# Altium schematic symbol library EISI.SchLib: 270 symbols (part 1 of 3)
Pins are listed as number, name and electrical type; pins without a type are passive.

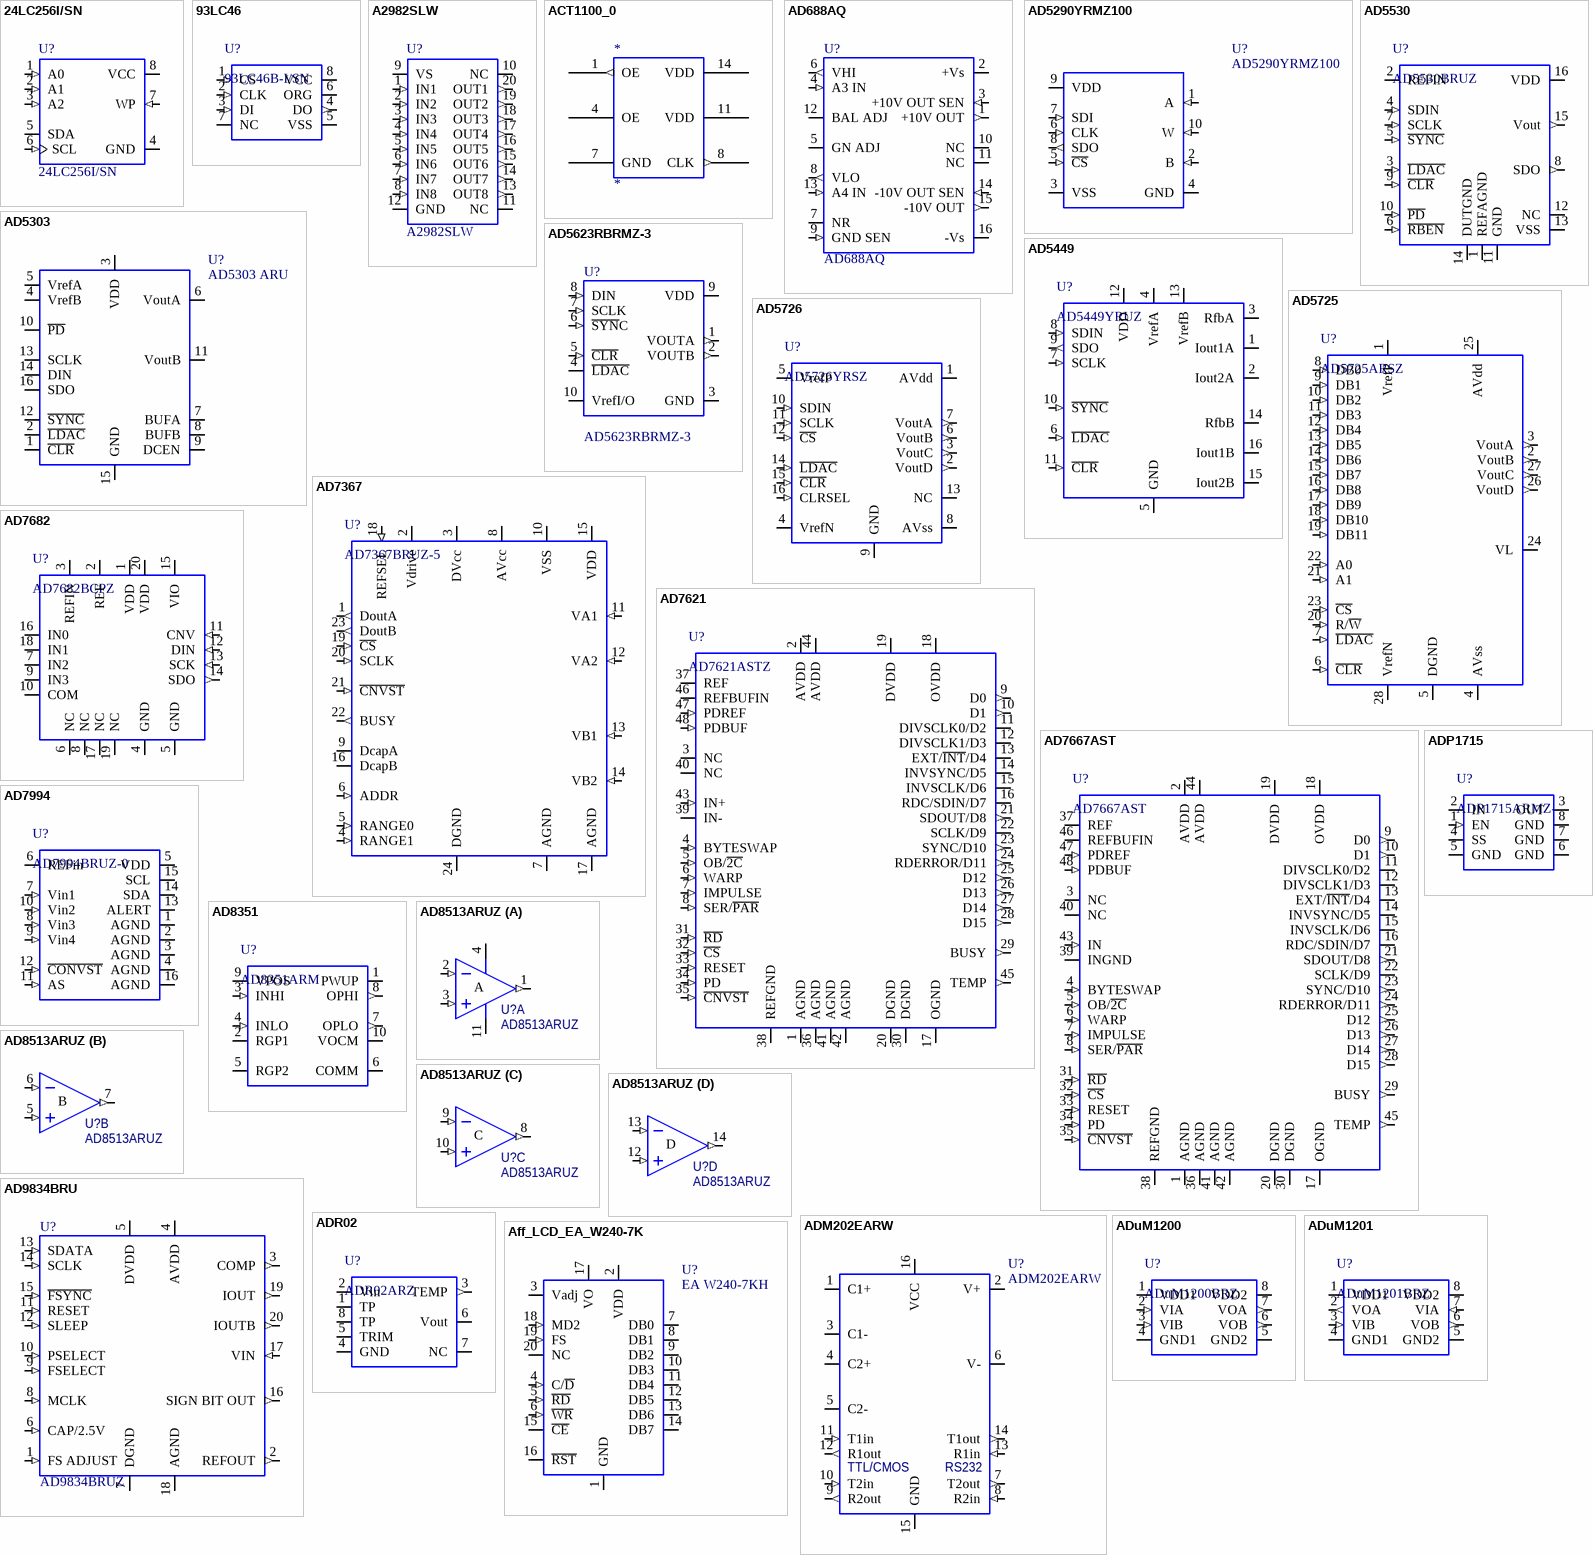
[diagram p0: symbols 24LC256I/SN to Aff_LCD_EA_W240-7K]

## 24LC256I/SN
designator U?
256 Kbit Serial I²C Bus EEPROM; Revision: 17-Jul-2002: Re-released for DXP Platform.
footprint SO801
pins: 1 A0 (in), 2 A1 (in), 3 A2 (in), 4 GND (power), 5 SDA (oc), 6 SCL (in), 7 WP (in), 8 VCC (power)

## 93LC46
designator U?, comment 93LC46B-I/SN
IC EEPROM 1KBIT 2MHZ 8SOIC
footprint SO801
pins: 1 CS (in), 2 CLK (in), 3 DI (in), 4 DO (out), 5 VSS (power), 6 ORG, 7 NC, 8 VCC (power)

## A2982SLW
designator U?
8-Channel Source Driver; Revision: 17-Jul-2002: Re-released for DXP Platform.
footprint SOL2001
pins: 1 IN1 (in), 2 IN2 (in), 3 IN3 (in), 4 IN4 (in), 5 IN5 (in), 6 IN6 (in), 7 IN7 (in), 8 IN8 (in), 9 VS (power), 10 NC, 11 NC, 12 GND (power), 13 OUT8 (out), 14 OUT7 (out), 15 OUT6 (out), 16 OUT5 (out), 17 OUT4 (out), 18 OUT3 (out), 19 OUT2 (out), 20 OUT1 (out)

## ACT1100_0
designator *
Right: 60; Bottom: 80
pins: 1 OE (out), 4 OE, 7 GND, 8 CLK (out), 11 VDD, 14 VDD

## AD688AQ
designator U?
High-Precision +/- 10V Reference; Manufacturer: Analog Devices
footprint Q-16_A (DIP; 16 Leads; Row Spacing 7.62 mm; Pitch 2.54 mm)
pins: 1 +10V OUT (out), 2 +Vs (power), 3 +10V OUT SEN (in), 4 A3 IN (in), 5 GN ADJ, 6 VHI (out), 7 NR, 8 VLO (out), 9 GND SEN (in), 10 NC, 11 NC, 12 BAL ADJ, 13 A4 IN (in), 14 -10V OUT SEN (in), 15 -10V OUT (out), 16 -Vs (power)

## AD5290YRMZ100
designator U?
Compact +30V/±15V 256-Position Digital Potentiometer
footprint TSSO3x5-G10 (Shrink Small Outline; 10 Leads; Body Width 3 mm; Pitch 0.5 mm)
pins: 1 A (in), 2 B (in), 3 VSS (power), 4 GND (power), 5 ~{CS} (in), 6 CLK (in), 7 SDI (in), 8 SDO (out), 9 VDD (power), 10 W (in)
2 alternate drawings of the same symbol

## AD5303
designator U?, comment AD5303 ARU
Dual DAC 8-bit
footprint TSSOP16 (Shrink Small Outline; 16 Leads; Body Width 4.4 mm; Pitch 0.65 mm)
pins: 1 ~{CLR} (power), 2 ~{LDAC} (power), 3 VDD (power), 4 VrefB (power), 5 VrefA (power), 6 VoutA (power), 7 BUFA (power), 8 BUFB (power), 9 DCEN (power), 10 ~{PD} (power), 11 VoutB (power), 12 ~{SYNC} (power), 13 SCLK (power), 14 DIN (power), 15 GND (power), 16 SDO (power)

## AD5449
designator U?, comment AD5449YRUZ
Dual 12 bit Multiplying DAC with Serial Interface
footprint TSSOP16 (Shrink Small Outline; 16 Leads; Body Width 4.4 mm; Pitch 0.65 mm)
pins: 1 Iout1A, 2 Iout2A, 3 RfbA, 4 VrefA, 5 GND (power), 6 ~{LDAC} (in), 7 SCLK (in), 8 SDIN (in), 9 SDO (out), 10 ~{SYNC} (in), 11 ~{CLR} (in), 12 VDD (power), 13 VrefB, 14 RfbB, 15 Iout2B, 16 Iout1B

## AD5530
designator U?, comment AD5530BRUZ
Serial Input, Voltage Output 12-Bit D/A Converter
footprint TSSOP16 (Shrink Small Outline; 16 Leads; Body Width 4.4 mm; Pitch 0.65 mm)
pins: 1 REFAGND (power), 2 REFIN, 3 ~{LDAC} (in), 4 SDIN (in), 5 ~{SYNC} (in), 6 ~{RBEN} (in), 7 SCLK (in), 8 SDO (out), 9 ~{CLR} (in), 10 ~{PD} (in), 11 GND (power), 12 NC, 13 VSS (power), 14 DUTGND (power), 15 Vout (out), 16 VDD (power)

## AD5623RBRMZ-3
designator U?
Dual 12-Bit nanoDAC with 5 ppm/°C On-Chip Reference
footprint TSSO3x5-G10 (Shrink Small Outline; 10 Leads; Body Width 3 mm; Pitch 0.5 mm)
pins: 1 VOUTA (out), 2 VOUTB (out), 3 GND (power), 4 ~{LDAC} (io), 5 ~{CLR} (in), 6 ~{SYN}C (in), 7 SCLK (in), 8 DIN (in), 9 VDD (power), 10 VrefI/O (io)
2 alternate drawings of the same symbol

## AD5725
designator U?, comment AD5725ARSZ
Quad, 12-Bit, Parallel Input,  Unipolar/Bipolar, Voltage Output DAC; Manufacturer: Analog Devices
footprint SSOP28B (SSOP; 28 Leads; Body Width 5.3 mm; Pitch 0.65 mm)
pins: 1 VrefP, 2 VoutB (out), 3 VoutA (out), 4 AVss (power), 5 DGND (power), 6 ~{CLR} (in), 7 ~{LDAC} (in), 8 DB0 (in), 9 DB1 (in), 10 DB2 (in), 11 DB3 (in), 12 DB4 (in), 13 DB5 (in), 14 DB6 (in), 15 DB7 (in), 16 DB8 (in), 17 DB9 (in), 18 DB10 (in), 19 DB11 (in), 20 R/~{W} (in), 21 A1 (in), 22 A0 (in), 23 ~{CS} (in), 24 VL, 25 AVdd (power), 26 VoutD (out), 27 VoutC (out), 28 VrefN

## AD5726
designator U?, comment AD5726YRSZ
Quad, 12-Bit, Serial Input,  Unipolar/Bipolar, Voltage Output DAC; Manufacturer: Analog Devices
footprint SSOP16 (SSOP; 16 Leads; Body Width 5.3 mm; Pitch 0.65 mm)
pins: 1 AVdd (power), 2 VoutD (out), 3 VoutC (out), 4 VrefN, 5 VrefP, 6 VoutB (out), 7 VoutA (out), 8 AVss (power), 9 GND (power), 10 SDIN (in), 11 SCLK (in), 12 ~{CS} (in), 13 NC, 14 ~{LDAC} (in), 15 ~{CLR} (in), 16 CLRSEL (in)

## AD7367
designator U?, comment AD7367BRUZ-5
True Bipolar Input, Dual 14-Bit,  2-Channel, Simultaneous Sampling ADC
footprint TSSOP24 (TSOP, 24-Leads, Body 7.8x4.4mm, Pitch 0.65mm, IPC High Density)
pins: 1 DoutA (out), 2 Vdrive (power), 3 DVcc (power), 4 RANGE1 (in), 5 RANGE0 (in), 6 ADDR (in), 7 AGND (power), 8 AVcc (power), 9 DcapA, 10 VSS (oe), 11 VA1 (in), 12 VA2 (in), 13 VB1 (in), 14 VB2 (in), 15 VDD (power), 16 DcapB, 17 AGND (power), 18 REFSEL (in), 19 ~{CS} (in), 20 SCLK (in), 21 ~{CNVST} (in), 22 BUSY (out), 23 DoutB (out), 24 DGND (power)

## AD7621
designator U?, comment AD7621ASTZ
16-Bit, 2 LSB INL, 3 MSPS ADC
footprint LQFP48 (48-Pin Thin Quad Flat Pack 0.5 mm Pitch, IPC Medium Density)
pins: 1 AGND (power), 2 AVDD (power), 3 NC, 4 BYTESWAP (in), 5 OB/~{2C} (in), 6 WARP (in), 7 IMPULSE (in), 8 SER/~{PAR} (in), 9 D0 (out), 10 D1 (out), 11 DIVSCLK0/D2 (io), 12 DIVSCLK1/D3 (io), 13 EXT/~{INT}/D4 (io), 14 INVSYNC/D5 (io), 15 INVSCLK/D6 (io), 16 RDC/SDIN/D7 (io), 17 OGND (power), 18 OVDD (power), 19 DVDD (power), 20 DGND (power), 21 SDOUT/D8 (out), 22 SCLK/D9 (io), 23 SYNC/D10 (out), 24 RDERROR/D11 (out), 25 D12 (out), 26 D13 (out), 27 D14 (out), 28 D15 (out), 29 BUSY (out), 30 DGND (power), 31 ~{RD} (in), 32 ~{CS} (in), 33 RESET (in), 34 PD (in), 35 ~{CNVST} (in), 36 AGND (power), 37 REF, 38 REFGND, 39 IN-, 40 NC, 41 AGND (power), 42 AGND (power), 43 IN+ (in), 44 AVDD (power), 45 TEMP (out), 46 REFBUFIN (io), 47 PDREF (in), 48 PDBUF (in)

## AD7667AST
designator U?
16-Bit 1 MSPS Unipolar ADC with Reference
footprint LQFP48 (48-Pin Thin Quad Flat Pack 0.5 mm Pitch, IPC Medium Density)
pins: 1 AGND (power), 2 AVDD (power), 3 NC, 4 BYTESWAP (in), 5 OB/~{2C} (in), 6 WARP (in), 7 IMPULSE (in), 8 SER/~{PAR} (in), 9 D0 (out), 10 D1 (out), 11 DIVSCLK0/D2 (io), 12 DIVSCLK1/D3 (io), 13 EXT/~{INT}/D4 (io), 14 INVSYNC/D5 (io), 15 INVSCLK/D6 (io), 16 RDC/SDIN/D7 (io), 17 OGND (power), 18 OVDD (power), 19 DVDD (power), 20 DGND (power), 21 SDOUT/D8 (out), 22 SCLK/D9 (io), 23 SYNC/D10 (out), 24 RDERROR/D11 (out), 25 D12 (out), 26 D13 (out), 27 D14 (out), 28 D15 (out), 29 BUSY (out), 30 DGND (power), 31 ~{RD} (in), 32 ~{CS} (in), 33 RESET (in), 34 PD (in), 35 ~{CNVST} (in), 36 AGND (power), 37 REF, 38 REFGND, 39 INGND, 40 NC, 41 AGND (power), 42 AGND (power), 43 IN (in), 44 AVDD (power), 45 TEMP (out), 46 REFBUFIN (io), 47 PDREF (in), 48 PDBUF (in)

## AD7682
designator U?, comment AD7682BCPZ
16-Bit, 4-Channel, 250 kSPS ADC
footprint QFN2001 (QFN, 20-Leads, Body 4x4mm, Pitch 0.5mm, IPC Medium Density)
pins: 1 VDD (power), 2 REF (io), 3 REFIN (io), 4 GND (power), 5 GND (power), 6 NC, 7 IN2, 8 NC, 9 IN3, 10 COM, 11 CNV (in), 12 DIN (in), 13 SCK (in), 14 SDO (out), 15 VIO (power), 16 IN0, 17 NC, 18 IN1, 19 NC, 20 VDD (power)

## AD7994
designator U?, comment AD7994BRUZ-0
IC ADC 12BIT 4CHAN I2C 16TSSOP
footprint TSSOP16 (Shrink Small Outline; 16 Leads; Body Width 4.4 mm; Pitch 0.65 mm)
pins: 1 AGND (power), 2 AGND (power), 3 AGND (power), 4 AGND (power), 5 VDD (power), 6 REFin, 7 Vin1 (in), 8 Vin3 (in), 9 Vin4 (in), 10 Vin2 (in), 11 AS (in), 12 ~{CONVST} (in), 13 ALERT (oc), 14 SDA (io), 15 SCL (io), 16 AGND (power)

## AD8351
designator U?, comment AD8351ARM
Low Distortion  Differential RF/IF Amplifier
footprint TSSOP10 (TSSOP, 10-Leads, Body 3x3mm, Pitch 0.5mm, IPC Medium Density)
pins: 1 PWUP (power), 2 RGP1, 3 INHI (in), 4 INLO (in), 5 RGP2, 6 COMM (power), 7 OPLO (out), 8 OPHI (out), 9 VPOS (power), 10 VOCM

## AD8513ARUZ
designator U?
Quad, Precision, Very low Noise, Low Input Bias Current, JFET AOP
footprint TSSOP14 (Shrink Small Outline, TSSOP; 14 Leads; Body Width 4.4 mm; Pitch 0.65 mm)
3D model RU-14 (Shrink Small Outline, TSSOP; 14 Leads; Body Width 4.4 mm; Pitch 0.65 mm)
simulation model AD8534 (SUBCKT)
part A pins: 1 OUT (out), 2 IN- (in), 3 IN+ (in), 4 V+ (power), 11 V- (power)
part B pins: 5 IN+ (in), 6 IN- (in), 7 OUT (out)
part C pins: 8 OUT (out), 9 IN- (in), 10 IN+ (in)
part D pins: 12 IN+ (in), 13 IN- (in), 14 OUT (out)
part A text: A
part B text: B
part C text: C
part D text: D

## AD9834BRU
designator U?, comment AD9834BRUZ
2.3 to 5.5V, 75MHz, Complete DDS
footprint SSOP2001
pins: 1 FS ADJUST (in), 2 REFOUT (out), 3 COMP (out), 4 AVDD (power), 5 DVDD (power), 6 CAP/2.5V (in), 7 DGND (power), 8 MCLK (in), 9 FSELECT (in), 10 PSELECT (in), 11 RESET (in), 12 SLEEP (in), 13 SDATA (in), 14 SCLK (in), 15 ~{FSYNC} (in), 16 SIGN BIT OUT (out), 17 VIN (in), 18 AGND (power), 19 IOUT (out), 20 IOUTB (out)
2 alternate drawings of the same symbol

## ADM202EARW
designator U?
RS232 dual Transceiver +5V
footprint SOL1601
pins: 1 C1+, 2 V+, 3 C1-, 4 C2+, 5 C2-, 6 V-, 7 T2out (out), 8 R2in (in), 9 R2out (out), 10 T2in (in), 11 T1in (in), 12 R1out (out), 13 R1in (in), 14 T1out (out), 15 GND (power), 16 VCC (power)
text: TTL/CMOS; RS232

## ADP1715
designator U?, comment ADP1715ARMZ-
IC REG LDO 500MA xxxV 8-MSOP
footprint MSOP8 (Shrink Small Outline, MSOP; 8 Leads; Body Width 3 mm; Pitch 0.65 mm)
pins: 1 EN (in), 2 IN (power), 3 OUT (power), 4 SS, 5 GND (power), 6 GND (power), 7 GND (power), 8 GND (power)

## ADR02
designator U?, comment ADR02ARZ
Precision 5.0V Voltage Reference
footprint SO801
pins: 1 TP, 2 Vin (power), 3 TEMP (out), 4 GND (power), 5 TRIM, 6 Vout, 7 NC, 8 TP

## ADuM1200
designator U?, comment ADuM1200BRZ
Dual-Channel Digital Isolators
footprint SO801
pins: 1 VDD1 (power), 2 VIA (in), 3 VIB (in), 4 GND1 (power), 5 GND2 (power), 6 VOB (out), 7 VOA (out), 8 VDD2 (power)

## ADuM1201
designator U?, comment ADuM1201BRZ
Dual-Channel Digital Isolators
footprint SO801
pins: 1 VDD1 (power), 2 VOA (out), 3 VIB (in), 4 GND1 (power), 5 GND2 (power), 6 VOB (out), 7 VIA (in), 8 VDD2 (power)

## Aff_LCD_EA_W240-7K
designator U?, comment EA W240-7KH
Affichage LCD graphique 240x128 pixels
footprint Aff_LCD_EA_W240 (Affichage LCD graphique 240x128 pixels)
pins: 1 GND (power), 2 VDD (power), 3 Vadj, 4 C/~{D} (in), 5 ~{RD} (in), 6 ~{WR} (in), 7 DB0 (io), 8 DB1 (io), 9 DB2 (io), 10 DB3 (io), 11 DB4 (io), 12 DB5 (io), 13 DB6 (io), 14 DB7 (io), 15 ~{CE} (io), 16 ~{RST} (io), 17 VO, 18 MD2 (in), 19 FS (in), 20 NC (io)

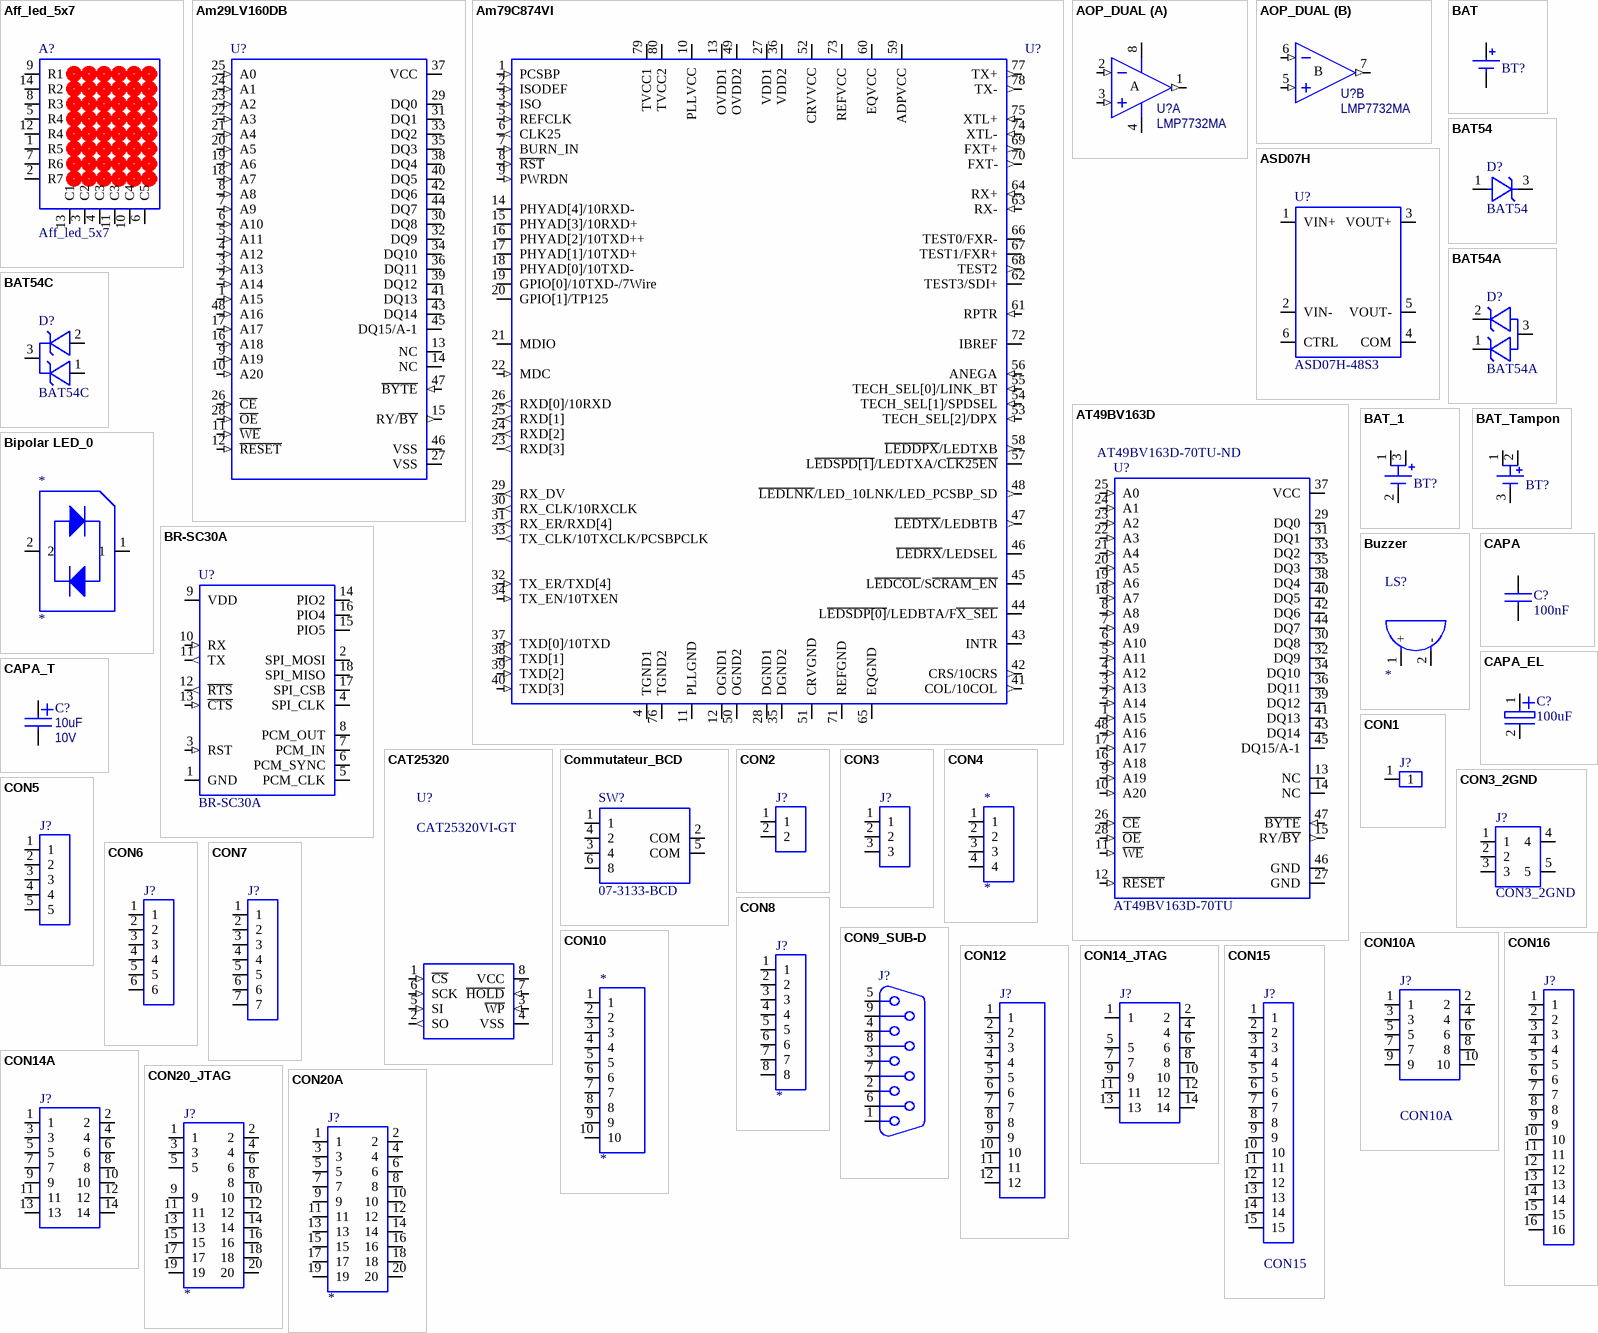
[diagram p1: symbols Aff_led_5x7 to CON20A]

## Aff_led_5x7
designator A?
footprint aff_5x7 (Affichage 5x7 dot 53mm)
pins: 1 R5, 2 R7, 3 C2, 4 C3, 5 R4, 6 C5, 7 R6, 8 R3, 9 R1, 10 C4, 11 C3, 12 R4, 13 C1, 14 R2

## Am29LV160DB
designator U?
1M x 16bit Flash Memory; Right: 130; Bottom: 270
footprint TSSO12X20-G48/P.5
pins: 1 A15 (in), 2 A14 (in), 3 A13 (in), 4 A12 (in), 5 A11 (in), 6 A10 (in), 7 A9 (in), 8 A8 (in), 9 A19 (in), 10 A20 (in), 11 ~{WE} (in), 12 ~{RESET} (in), 13 NC, 14 NC, 15 RY/~{BY} (out), 16 A18 (in), 17 A17 (in), 18 A7 (in), 19 A6 (in), 20 A5 (in), 21 A4 (in), 22 A3 (in), 23 A2 (in), 24 A1 (in), 25 A0 (in), 26 ~{CE} (in), 27 VSS (power), 28 ~{OE} (in), 29 DQ0 (io), 30 DQ8 (io), 31 DQ1 (io), 32 DQ9 (io), 33 DQ2 (io), 34 DQ10 (io), 35 DQ3 (io), 36 DQ11 (io), 37 VCC (power), 38 DQ4 (io), 39 DQ12 (io), 40 DQ5 (io), 41 DQ13 (io), 42 DQ6 (io), 43 DQ14 (io), 44 DQ7 (io), 45 DQ15/A-1 (io), 46 VSS (power), 47 ~{BYTE} (in), 48 A16 (in)

## Am79C874VI
designator U?
NetPHY; Right: 450; Bottom: 250
pins: 1 PCSBP (in), 2 ISODEF (in), 3 ISO (in), 4 TGND1, 5 REFCLK (in), 6 CLK25 (out), 7 BURN_IN (in), 8 ~{RST} (in), 9 PWRDN (in), 10 PLLVCC, 11 PLLGND, 12 OGND1, 13 OVDD1, 14 PHYAD[4]/10RXD- (io), 15 PHYAD[3]/10RXD+ (io), 16 PHYAD[2]/10TXD++ (io), 17 PHYAD[1]/10TXD+ (io), 18 PHYAD[0]/10TXD- (io), 19 GPIO[0]/10TXD-/7Wire (io), 20 GPIO[1]/TP125 (io), 21 MDIO (io), 22 MDC (in), 23 RXD[3] (out), 24 RXD[2] (out), 25 RXD[1] (out), 26 RXD[0]/10RXD (out), 27 VDD1, 28 DGND1, 29 RX_DV (out), 30 RX_CLK/10RXCLK (out), 31 RX_ER/RXD[4] (out), 32 TX_ER/TXD[4] (in), 33 TX_CLK/10TXCLK/PCSBPCLK (out), 34 TX_EN/10TXEN (in), 35 DGND2, 36 VDD2, 37 TXD[0]/10TXD (in), 38 TXD[1] (in), 39 TXD[2] (in), 40 TXD[3] (in), 41 COL/10COL (out), 42 CRS/10CRS (out), 43 INTR (io), 44 L~{EDSDP[0]}/LEDBTA/F~{X_SEL} (io), 45 L~{EDCOL}/S~{CRAM_EN} (io), 46 ~{LEDRX}/LEDSEL (io), 47 ~{LEDTX}/LEDBTB (out), 48 ~{LEDLNK}/LED_10LNK/LED_PCSBP_SD (out), 49 OVDD2, 50 OGND2, 51 CRVGND, 52 CRVVCC, 53 TECH_SEL[2]/DPX (in), 54 TECH_SEL[1]/SPDSEL (in), 55 TECH_SEL[0]/LINK_BT (in), 56 ANEGA (in), 57 L~{EDSPD[1]}/LEDTXA/C~{LK25EN} (io), 58 ~{LEDDPX}/LEDTXB (out), 59 ADPVCC, 60 EQVCC, 61 RPTR (in), 62 TEST3/SDI+ (io), 63 RX- (in), 64 RX+ (in), 65 EQGND, 66 TEST0/FXR- (io), 67 TEST1/FXR+ (io), 68 TEST2 (out), 69 FXT+ (out), 70 FXT- (out), 71 REFGND, 72 IBREF, 73 REFVCC, 74 XTL- (in), 75 XTL+ (in), 76 TGND2, 77 TX+ (out), 78 TX- (out), 79 TVCC1, 80 TVCC2

## AOP_DUAL
designator U?, comment LMP7732MA
Low Noise, RRIO, DUAL AOP
footprint SO801
part A pins: 1 OUT (out), 2 IN- (in), 3 IN+ (in), 4 V- (power), 8 V+ (power)
part B pins: 5 IN+ (in), 6 IN- (in), 7 OUT (out)
part A text: A
part B text: B

## ASD07H
designator U?, comment ASD07H-48S3
DC/DC converter
pins: 1 VIN+ (power), 2 VIN- (power), 3 VOUT+ (power), 4 COM (power), 5 VOUT- (power), 6 CTRL (power)

## AT49BV163D
designator U?, comment AT49BV163D-70TU  Supplier Part Number 1: AT49BV163D-70TU-ND
1M x 16bit Flash Memory; Supplier 1: Digi-Key
footprint TSSO12X20-G48/P.5
pins: 1 A15 (in), 2 A14 (in), 3 A13 (in), 4 A12 (in), 5 A11 (in), 6 A10 (in), 7 A9 (in), 8 A8 (in), 9 A19 (in), 10 A20 (in), 11 ~{WE} (in), 12 ~{RESET} (in), 13 NC, 14 NC, 15 RY/~{BY} (out), 16 A18 (in), 17 A17 (in), 18 A7 (in), 19 A6 (in), 20 A5 (in), 21 A4 (in), 22 A3 (in), 23 A2 (in), 24 A1 (in), 25 A0 (in), 26 ~{CE} (in), 27 GND (power), 28 ~{OE} (in), 29 DQ0 (io), 30 DQ8 (io), 31 DQ1 (io), 32 DQ9 (io), 33 DQ2 (io), 34 DQ10 (io), 35 DQ3 (io), 36 DQ11 (io), 37 VCC (power), 38 DQ4 (io), 39 DQ12 (io), 40 DQ5 (io), 41 DQ13 (io), 42 DQ6 (io), 43 DQ14 (io), 44 DQ7 (io), 45 DQ15/A-1 (io), 46 GND (power), 47 ~{BYTE} (in), 48 A16 (in)

## BAT
designator BT?
Batterie; Right: 20; Bottom: 10
pins: 1 A, 2 C

## BAT54
designator D?
Diode Schottky
footprint SOT2301
pins: 1 ANODE, 3 CATHODE, NC 2 hidden

## BAT54A
designator D?
Diode Schottky double
footprint SOT2301
pins: 1 C1, 2 C2, 3 Anode

## BAT54C
designator D?
Diode Schottky double
footprint SOT2301
pins: 1 C1, 2 C2, 3 Anode

## BAT_1
designator BT?
Batterie
pins: 1 A1, 2 C, 3 A2

## BAT_Tampon
designator BT?, comment NC-M2.4  (value not drawn)
Batterie; Right: 20; Bottom: 10
footprint BAT_Tampon (Batterie tampon au nickel cadnium)
pins: 1 A, 2 A, 3 C

## Bipolar LED_0
designator *
Right: 50; Bottom: 80
pins: 1, 2

## BR-SC30A
designator U?
Bluetooth stamp module
footprint BR-SC30A (Bluetooth stamp  module)
pins: 1 GND (power), 2 SPI_MOSI (io), 3 RST (in), 4 SPI_CLK (io), 5 PCM_CLK (io), 6 PCM_SYNC (io), 7 PCM_IN (io), 8 PCM_OUT (io), 9 VDD (power), 10 RX (in), 11 TX (out), 12 ~{RTS} (out), 13 ~{CTS} (in), 14 PIO2 (io), 15 PIO5 (io), 16 PIO4 (io), 17 SPI_CSB (io), 18 SPI_MISO (io)

## Buzzer
designator LS?
Buzzer; Manufacturer: Generic Components; Published: 24-Mar-1999; Revision: July-2002: Re-released for DXP Platform.; Publisher: Altium Limited
footprint PIN2
pins: 1 +, 2 -

## CAPA
designator C?, comment 100nF
Condo céramique; Right: 20; Bottom: 10; Value: 100nF
footprint 080503
pins: 1, 2

## CAPA_EL
designator C?, comment 100uF
Condo électrolytique; Value: 100uF
pins: 1, 2

## CAPA_T
designator C?, comment Voltage: 10V  (hidden comment: 10uF)
Condo tantale; Value: 10uF
footprint 734301
pins: 1, 2

## CAT25320
designator U?, comment CAT25320VI-GT
32-Kb SPI Serial EEPROM
footprint SO801
pins: 1 ~{CS} (in), 2 SO (out), 3 ~{WP} (in), 4 VSS (power), 5 SI (in), 6 SCK (in), 7 ~{HOLD} (in), 8 VCC (power)

## Commutateur_BCD
designator SW?, comment 07-3133-BCD
Commutateur BCD
footprint Commutateur_BCD (Commutateur BCD type ELMA 07-3133)
pins: 1 (power), 2 COM (power), 3 4 (power), 4 2 (power), 5 COM (power), 6 8 (power)

## CON1
designator J?
Con1; Right: 20; Bottom: 50
pins: 1

## CON2
designator J?
Con2; Right: 20; Bottom: 50
pins: 1, 2

## CON3
designator J?
Right: 20; Bottom: 50
pins: 1, 2, 3

## CON3_2GND
designator J?
pins: 1, 2, 3, 4, 5

## CON4
designator *
Right: 20; Bottom: 50
pins: 1, 2, 3, 4

## CON5
designator J?
Right: 20; Bottom: 50
pins: 1, 2, 3, 4, 5

## CON6
designator J?
Right: 20; Bottom: 50
pins: 1, 2, 3, 4, 5, 6

## CON7
designator J?
Right: 20; Bottom: 50
pins: 1, 2, 3, 4, 5, 6, 7

## CON8
designator J?
pins: 1, 2, 3, 4, 5, 6, 7, 8

## CON9_SUB-D
designator J?
Right: 30; Bottom: 100
pins: 1, 2, 3, 4, 5, 6, 7, 8, 9

## CON10
designator *
Right: 30; Bottom: 110
pins: 1, 2, 3, 4, 5, 6, 7, 8, 9, 10

## CON10A
designator J?
pins: 1, 2, 3, 4, 5, 6, 7, 8, 9, 10

## CON12
designator J?
Right: 30; Bottom: 110
pins: 1, 2, 3, 4, 5, 6, 7, 8, 9, 10, 11, 12

## CON14_JTAG
designator J?
pins: 1, 2, 4, 5, 6, 7, 8, 9, 10, 11, 12, 13, 14

## CON14A
designator J?
pins: 1, 2, 3, 4, 5, 6, 7, 8, 9, 10, 11, 12, 13, 14

## CON15
designator J?
pins: 1, 2, 3, 4, 5, 6, 7, 8, 9, 10, 11, 12, 13, 14, 15

## CON16
designator J?
Right: 30; Bottom: 110
pins: 1, 2, 3, 4, 5, 6, 7, 8, 9, 10, 11, 12, 13, 14, 15, 16

## CON20_JTAG
designator J?
pins: 1, 2, 3, 4, 5, 6, 8, 9, 10, 11, 12, 13, 14, 15, 16, 17, 18, 19, 20

## CON20A
designator J?
Right: 60; Bottom: 110
pins: 1, 2, 3, 4, 5, 6, 7, 8, 9, 10, 11, 12, 13, 14, 15, 16, 17, 18, 19, 20

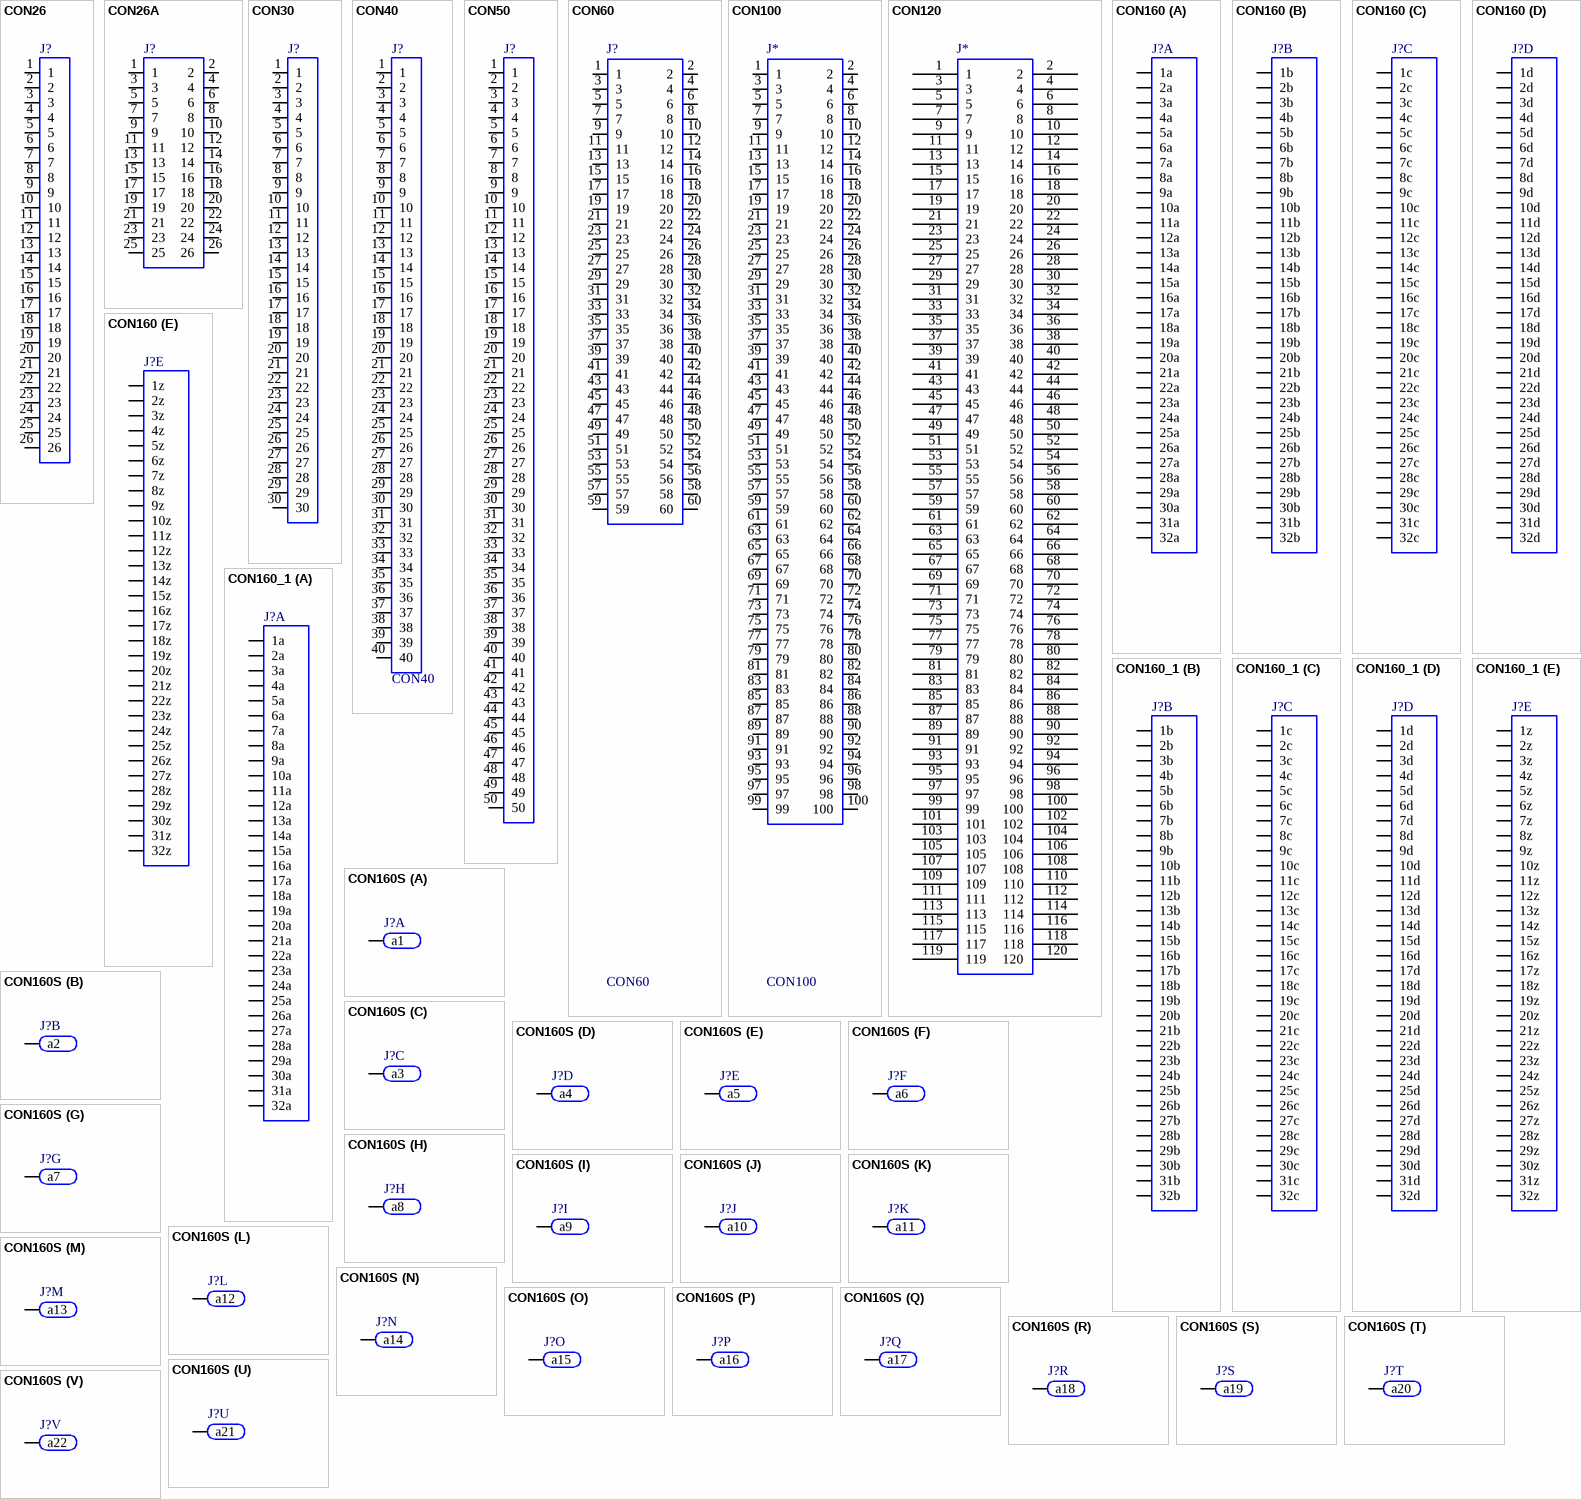
[diagram p2: symbols CON26 to CON160S]

## CON26
designator J?
Right: 60; Bottom: 140
pins: 1, 2, 3, 4, 5, 6, 7, 8, 9, 10, 11, 12, 13, 14, 15, 16, 17, 18, 19, 20, 21, 22, 23, 24, 25, 26

## CON26A
designator J?
Right: 60; Bottom: 140
pins: 1, 2, 3, 4, 5, 6, 7, 8, 9, 10, 11, 12, 13, 14, 15, 16, 17, 18, 19, 20, 21, 22, 23, 24, 25, 26

## CON30
designator J?
pins: 1, 2, 3, 4, 5, 6, 7, 8, 9, 10, 11, 12, 13, 14, 15, 16, 17, 18, 19, 20, 21, 22, 23, 24, 25, 26, 27, 28, 29, 30

## CON40
designator J?
pins: 1, 2, 3, 4, 5, 6, 7, 8, 9, 10, 11, 12, 13, 14, 15, 16, 17, 18, 19, 20, 21, 22, 23, 24, 25, 26, 27, 28, 29, 30, 31, 32, 33, 34, 35, 36, 37, 38, 39, 40

## CON50
designator J?
Right: 60; Bottom: 140
pins: 1, 2, 3, 4, 5, 6, 7, 8, 9, 10, 11, 12, 13, 14, 15, 16, 17, 18, 19, 20, 21, 22, 23, 24, 25, 26, 27, 28, 29, 30, 31, 32, 33, 34, 35, 36, 37, 38, 39, 40, 41, 42, 43, 44, 45, 46, 47, 48, 49, 50

## CON60
designator J?
pins: 1, 2, 3, 4, 5, 6, 7, 8, 9, 10, 11, 12, 13, 14, 15, 16, 17, 18, 19, 20, 21, 22, 23, 24, 25, 26, 27, 28, 29, 30, 31, 32, 33, 34, 35, 36, 37, 38, 39, 40, 41, 42, 43, 44, 45, 46, 47, 48, 49, 50, 51, 52, 53, 54, 55, 56, 57, 58, 59, 60

## CON100
designator J*
pins: 1, 2, 3, 4, 5, 6, 7, 8, 9, 10, 11, 12, 13, 14, 15, 16, 17, 18, 19, 20, 21, 22, 23, 24, 25, 26, 27, 28, 29, 30, 31, 32, 33, 34, 35, 36, 37, 38, 39, 40, 41, 42, 43, 44, 45, 46, 47, 48, 49, 50, 51, 52, 53, 54, 55, 56, 57, 58, 59, 60, 61, 62, 63, 64, 65, 66, 67, 68, 69, 70, 71, 72, 73, 74, 75, 76, 77, 78, 79, 80, 81, 82, 83, 84, 85, 86, 87, 88, 89, 90, 91, 92, 93, 94, 95, 96, 97, 98, 99, 100

## CON120
designator J*
Right: 50; Bottom: 610
pins: 1, 2, 3, 4, 5, 6, 7, 8, 9, 10, 11, 12, 13, 14, 15, 16, 17, 18, 19, 20, 21, 22, 23, 24, 25, 26, 27, 28, 29, 30, 31, 32, 33, 34, 35, 36, 37, 38, 39, 40, 41, 42, 43, 44, 45, 46, 47, 48, 49, 50, 51, 52, 53, 54, 55, 56, 57, 58, 59, 60, 61, 62, 63, 64, 65, 66, 67, 68, 69, 70, 71, 72, 73, 74, 75, 76, 77, 78, 79, 80, 81, 82, 83, 84, 85, 86, 87, 88, 89, 90, 91, 92, 93, 94, 95, 96, 97, 98, 99, 100, 101, 102, 103, 104, 105, 106, 107, 108, 109, 110, 111, 112, 113, 114, 115, 116, 117, 118, 119, 120

## CON160
designator J?
Right: 30; Bottom: 110
part A pins: 1a, 2a, 3a, 4a, 5a, 6a, 7a, 8a, 9a, 10a, 11a, 12a, 13a, 14a, 15a, 16a, 17a, 18a, 19a, 20a, 21a, 22a, 23a, 24a, 25a, 26a, 27a, 28a, 29a, 30a, 31a, 32a
part B pins: 1b, 2b, 3b, 4b, 5b, 6b, 7b, 8b, 9b, 10b, 11b, 12b, 13b, 14b, 15b, 16b, 17b, 18b, 19b, 20b, 21b, 22b, 23b, 24b, 25b, 26b, 27b, 28b, 29b, 30b, 31b, 32b
part C pins: 1c, 2c, 3c, 4c, 5c, 6c, 7c, 8c, 9c, 10c, 11c, 12c, 13c, 14c, 15c, 16c, 17c, 18c, 19c, 20c, 21c, 22c, 23c, 24c, 25c, 26c, 27c, 28c, 29c, 30c, 31c, 32c
part D pins: 1d, 2d, 3d, 4d, 5d, 6d, 7d, 8d, 9d, 10d, 11d, 12d, 13d, 14d, 15d, 16d, 17d, 18d, 19d, 20d, 21d, 22d, 23d, 24d, 25d, 26d, 27d, 28d, 29d, 30d, 31d, 32d
part E pins: 1z, 2z, 3z, 4z, 5z, 6z, 7z, 8z, 9z, 10z, 11z, 12z, 13z, 14z, 15z, 16z, 17z, 18z, 19z, 20z, 21z, 22z, 23z, 24z, 25z, 26z, 27z, 28z, 29z, 30z, 31z, 32z

## CON160_1
designator J?
Right: 30; Bottom: 110
part A pins: 1a, 2a, 3a, 4a, 5a, 6a, 7a, 8a, 9a, 10a, 11a, 12a, 13a, 14a, 15a, 16a, 17a, 18a, 19a, 20a, 21a, 22a, 23a, 24a, 25a, 26a, 27a, 28a, 29a, 30a, 31a, 32a
part B pins: 1b, 2b, 3b, 4b, 5b, 6b, 7b, 8b, 9b, 10b, 11b, 12b, 13b, 14b, 15b, 16b, 17b, 18b, 19b, 20b, 21b, 22b, 23b, 24b, 25b, 26b, 27b, 28b, 29b, 30b, 31b, 32b
part C pins: 1c, 2c, 3c, 4c, 5c, 6c, 7c, 8c, 9c, 10c, 11c, 12c, 13c, 14c, 15c, 16c, 17c, 18c, 19c, 20c, 21c, 22c, 23c, 24c, 25c, 26c, 27c, 28c, 29c, 30c, 31c, 32c
part D pins: 1d, 2d, 3d, 4d, 5d, 6d, 7d, 8d, 9d, 10d, 11d, 12d, 13d, 14d, 15d, 16d, 17d, 18d, 19d, 20d, 21d, 22d, 23d, 24d, 25d, 26d, 27d, 28d, 29d, 30d, 31d, 32d
part E pins: 1z, 2z, 3z, 4z, 5z, 6z, 7z, 8z, 9z, 10z, 11z, 12z, 13z, 14z, 15z, 16z, 17z, 18z, 19z, 20z, 21z, 22z, 23z, 24z, 25z, 26z, 27z, 28z, 29z, 30z, 31z, 32z

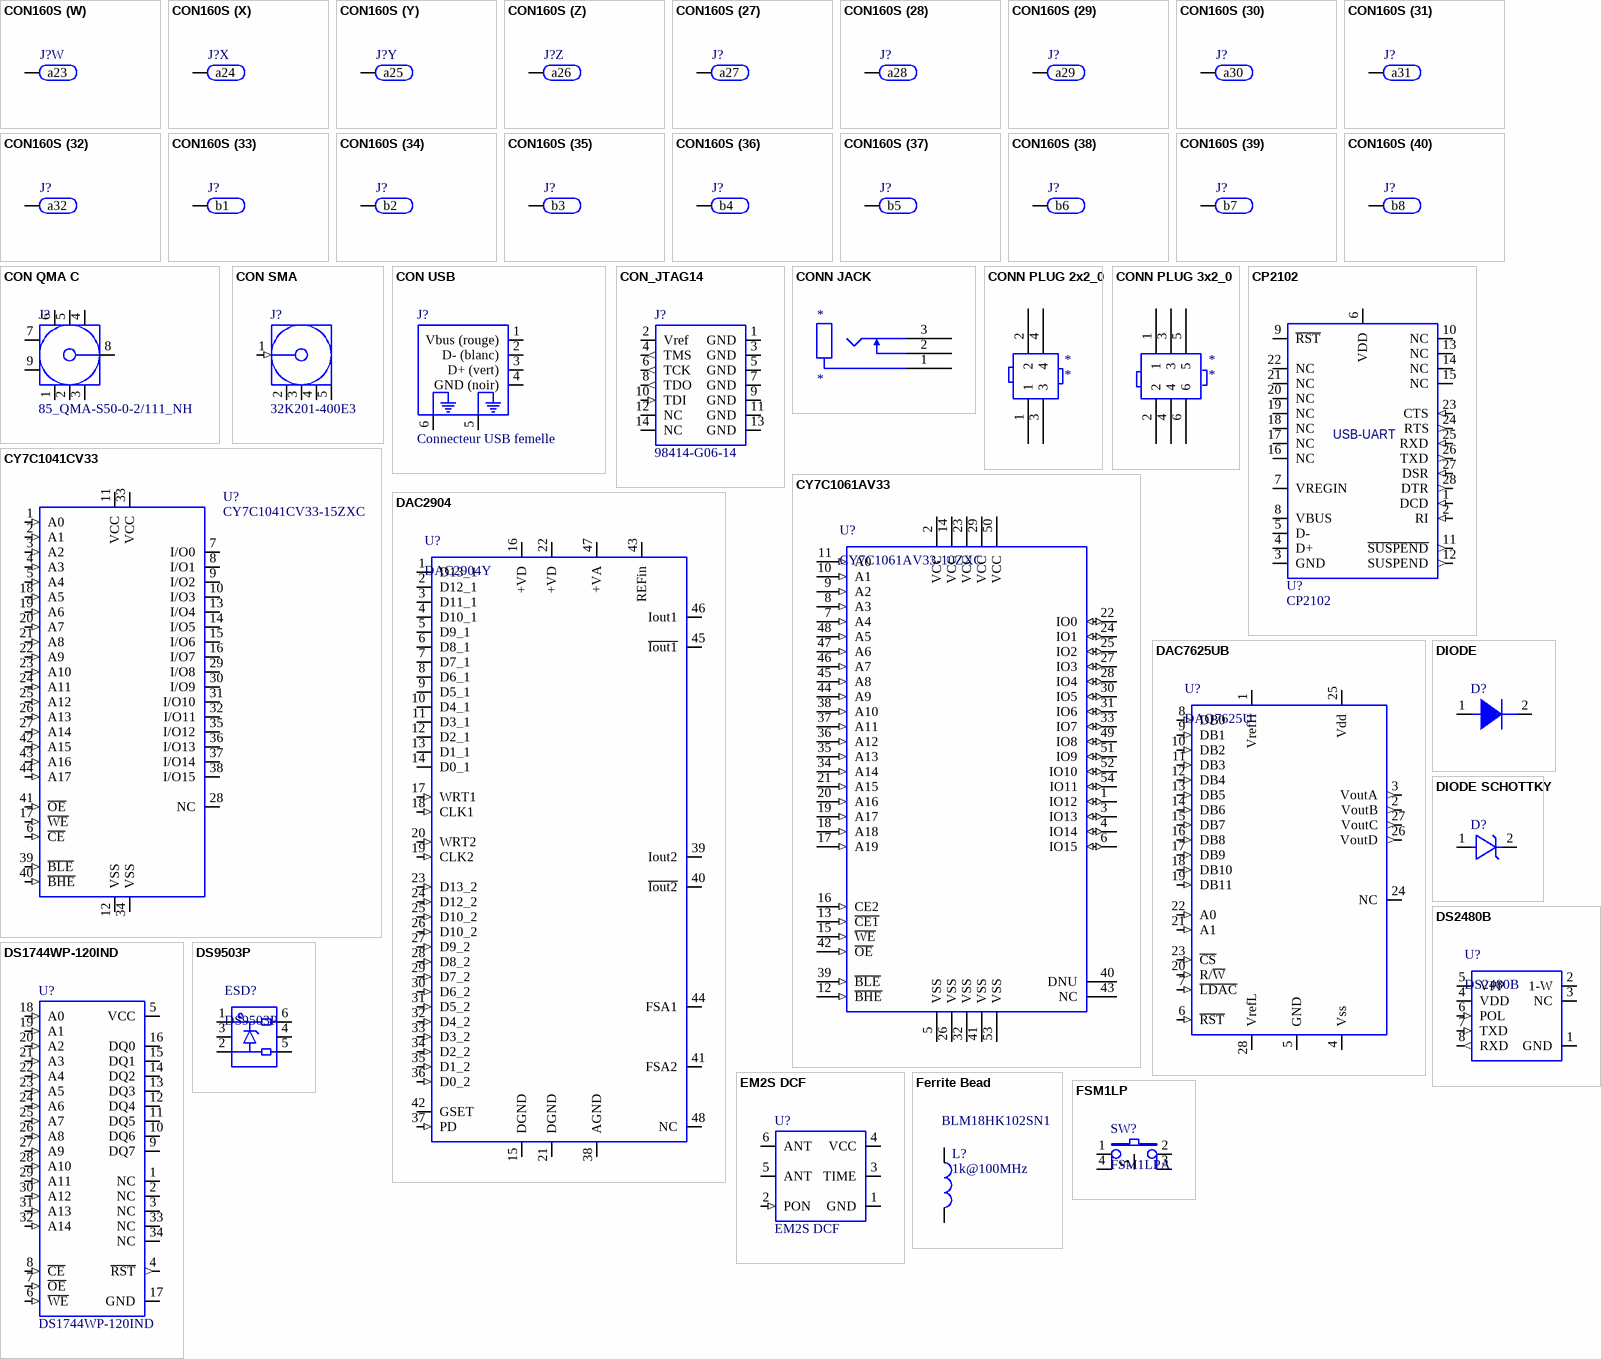
[diagram p3: symbols CON160S to FSM1LP]

## CON160S
designator J?
Connecteur IEC 61 076-4-113; Class I: Connector; Revision: July-2002: Re-released for DXP Platform.
part A pins: a1
part B pins: a2
part C pins: a3
part D pins: a4
part E pins: a5
part F pins: a6
part G pins: a7
part H pins: a8
part I pins: a9
part J pins: a10
part K pins: a11
part L pins: a12
part M pins: a13
part N pins: a14
part O pins: a15
part P pins: a16
part Q pins: a17
part R pins: a18
part S pins: a19
part T pins: a20
part U pins: a21
part V pins: a22
part W pins: a23
part X pins: a24
part Y pins: a25
part Z pins: a26
part 27 pins: a27
part 28 pins: a28
part 29 pins: a29
part 30 pins: a30
part 31 pins: a31
part 32 pins: a32
part 33 pins: b1
part 34 pins: b2
part 35 pins: b3
part 36 pins: b4
part 37 pins: b5
part 38 pins: b6
part 39 pins: b7
part 40 pins: b8
part 41 pins: b9
part 42 pins: b10
part 43 pins: b11
part 44 pins: b12
part 45 pins: b13
part 46 pins: b14
part 47 pins: b15
part 48 pins: b16
part 49 pins: b17
part 50 pins: b18
part 51 pins: b19
part 52 pins: b20
part 53 pins: b21
part 54 pins: b22
part 55 pins: b23
part 56 pins: b24
part 57 pins: b25
part 58 pins: b26
part 59 pins: b27
part 60 pins: b28
part 61 pins: b29
part 62 pins: b30
part 63 pins: b31
part 64 pins: b32
part 65 pins: c1
part 66 pins: c2
part 67 pins: c3
part 68 pins: c4
part 69 pins: c5
part 70 pins: c6
part 71 pins: c7
part 72 pins: c8
part 73 pins: c9
part 74 pins: c10
part 75 pins: c11
part 76 pins: c12
part 77 pins: c13
part 78 pins: c14
part 79 pins: c15
part 80 pins: c16
part 81 pins: c17
part 82 pins: c18
part 83 pins: c19
part 84 pins: c20
part 85 pins: c21
part 86 pins: c22
part 87 pins: c23
part 88 pins: c24
part 89 pins: c25
part 90 pins: c26
part 91 pins: c27
part 92 pins: c28
part 93 pins: c29
part 94 pins: c30
part 95 pins: c31
part 96 pins: c32
part 97 pins: d1
part 98 pins: d2
part 99 pins: d3
part 100 pins: d4
part 101 pins: d5
part 102 pins: d6
part 103 pins: d7
part 104 pins: d8
part 105 pins: d9
part 106 pins: d10
part 107 pins: d11
part 108 pins: d12
part 109 pins: d13
part 110 pins: d14
part 111 pins: d15
part 112 pins: d16
part 113 pins: d17
part 114 pins: d18
part 115 pins: d19
part 116 pins: d20
part 117 pins: d21
part 118 pins: d22
part 119 pins: d23
part 120 pins: d24
part 121 pins: d25
part 122 pins: d26
part 123 pins: d27
part 124 pins: d28
part 125 pins: d29
part 126 pins: d30
part 127 pins: d31
part 128 pins: d32
part 129 pins: z1
part 130 pins: z2
part 131 pins: z3
part 132 pins: z4
part 133 pins: z5
part 134 pins: z6
part 135 pins: z7
part 136 pins: z8
part 137 pins: z9
part 138 pins: z10
part 139 pins: z11
part 140 pins: z12
part 141 pins: z13
part 142 pins: z14
part 143 pins: z15
part 144 pins: z16
part 145 pins: z17
part 146 pins: z18
part 147 pins: z19
part 148 pins: z20
part 149 pins: z21
part 150 pins: z22
part 151 pins: z23
part 152 pins: z24
part 153 pins: z25
part 154 pins: z26
part 155 pins: z27
part 156 pins: z28
part 157 pins: z29
part 158 pins: z30
part 159 pins: z32
part 160 pins: z31

## CON QMA C
designator J?, comment 85_QMA-S50-0-2/111_NH
QMA RF Coaxial , Right angle PCB jack
footprint 85_QMA (QMA connector right angle PCB jack)
pins: 1 GND (power) "Signal Pin", 2 GND (power), 3 GND (power), 4 GND (power), 5 GND (power), 6 GND (power), 7 GND (power), 8 RF (io), 9 GND (power)

## CON SMA
designator J?, comment 32K201-400E3
SMA RF Coaxial PCB Connector, Thru-Hole, Right-Angle
footprint SMA_FC (Con SMA femelle print coudé)
pins: 1 Signal (in) "Signal Pin", 2 GND (power), 3 GND (power), 4 GND (power), 5 GND (power)

## CON USB
designator J?, comment Connecteur USB femelle
Connecteur USB; Fournisseur 1: Distrelec; Type 1: D-USB-BRA42-T11; Fabricant 1: DDK; Date de commande: 27/10/2005 (Distrelec 10 pièces); Date de reception: reçu le 31/10/2005; No comm. 1: 124164; NEW for Usb-pim: oui; Prix ind. base 1: 2.69; Prix ind. base 10: 2.47; Prix ind. base 50: 2.15; Fabricant 2: *; Type 2: *; Fournisseur 2: *; No comm. 2: *
signal-integrity model Connector
footprint USB2.5-2H4D (Connector; USB, Type B, Thru-Hole; 4 Position; Right Angle)
pins: 1 Vbus (rouge), 2 D- (blanc), 3 D+ (vert), 4 GND (noir), 5, 6

## CON_JTAG14
designator J?, comment 98414-G06-14
Con 2x7 row pitch 2mm pour cable JTAG USB
footprint J207JTAG (Connecteur 2x7 pas 2mm pour JTAG cable Xilinx USB)
pins: 1 GND (power), 2 Vref, 3 GND (power), 4 TMS (out), 5 GND (power), 6 TCK (out), 7 GND (power), 8 TDO (out), 9 GND (power), 10 TDI (in), 11 GND (power), 12 NC, 13 GND (power), 14 NC

## CONN JACK
designator *
Right: 70; Bottom: 40
pins: 1, 2, 3

## CONN PLUG 2x2_0
designator *
Right: 50; Bottom: 30
pins: 1, 2, 3, 4

## CONN PLUG 3x2_0
designator *
Right: 60; Bottom: 30
pins: 1, 2, 3, 4, 5, 6

## CP2102
designator U?
Single-Chip USB to UART Bridge; Distributor: *; Manufacturer: *; Value: *; Type: *
footprint QFN-28 (Quad Flat No Lead, Plastic; 16 Terminals; Body 4 x 4 mm; Pitch 0.65 mm)
pins: 1 DCD (in), 2 RI (in), 3 GND (power), 4 D+ (io), 5 D- (io), 6 VDD (power), 7 VREGIN (power), 8 VBUS (power), 9 ~{RST} (io), 10 NC, 11 ~{SUSPEND} (out), 12 SUSPEND (out), 13 NC, 14 NC, 15 NC (power), 16 NC, 17 NC, 18 NC, 19 NC, 20 NC, 21 NC, 22 NC, 23 CTS (in), 24 RTS (out), 25 RXD (in), 26 TXD (out), 27 DSR (in), 28 DTR (out)
text: USB-UART

## CY7C1041CV33
designator U?, comment CY7C1041CV33-15ZXC
256K x 16 Static RAM
footprint TSOP44 (Small Outline; 44 Leads; Body Width 10.16 mm; Pitch 0.8 mm)
pins: 1 A0 (in), 2 A1 (in), 3 A2 (in), 4 A3 (in), 5 A4 (in), 6 ~{CE} (in), 7 I/O0 (io), 8 I/O1 (io), 9 I/O2 (io), 10 I/O3 (io), 11 VCC (power), 12 VSS (power), 13 I/O4 (io), 14 I/O5 (io), 15 I/O6 (io), 16 I/O7 (io), 17 ~{WE} (in), 18 A5 (in), 19 A6 (in), 20 A7 (in), 21 A8 (in), 22 A9 (in), 23 A10 (in), 24 A11 (in), 25 A12 (in), 26 A13 (in), 27 A14 (in), 28 NC, 29 I/O8 (io), 30 I/O9 (io), 31 I/O10 (io), 32 I/O11 (io), 33 VCC (power), 34 VSS (power), 35 I/O12 (io), 36 I/O13 (io), 37 I/O14 (io), 38 I/O15 (io), 39 ~{BLE} (in), 40 ~{BHE} (in), 41 ~{OE} (in), 42 A15 (in), 43 A16 (in), 44 A17 (in)

## CY7C1061AV33
designator U?, comment CY7C1061AV33-10ZXC
16-Mbit (1M x 16) Static RAM
footprint TSOP5402 (SOP, 54-Leads, Body 22.5x10.16mm, Pitch 0.8mm, IPC Low Density)
pins: 1 IO12 (io), 2 VCC (power), 3 IO13 (io), 4 IO14 (io), 5 VSS (power), 6 IO15 (io), 7 A4 (in), 8 A3 (in), 9 A2 (in), 10 A1 (in), 11 A0 (in), 12 ~{BHE} (in), 13 ~{CE1} (in), 14 VCC (power), 15 ~{WE} (in), 16 CE2 (in), 17 A19 (in), 18 A18 (in), 19 A17 (in), 20 A16 (in), 21 A15 (in), 22 IO0 (io), 23 VCC (power), 24 IO1 (io), 25 IO2 (io), 26 VSS (power), 27 IO3 (io), 28 IO4 (io), 29 VCC (power), 30 IO5 (io), 31 IO6 (io), 32 VSS (power), 33 IO7 (io), 34 A14 (in), 35 A13 (in), 36 A12 (in), 37 A11 (in), 38 A10 (in), 39 ~{BLE} (in), 40 DNU, 41 VSS (power), 42 ~{OE} (in), 43 NC, 44 A9 (in), 45 A8 (in), 46 A7 (in), 47 A6 (in), 48 A5 (in), 49 IO8 (io), 50 VCC (power), 51 IO9 (io), 52 IO10 (io), 53 VSS (power), 54 IO11 (io)

## DAC2904
designator U?, comment DAC2904Y
Dual 14-Bit, 125MSPS Digital-to-Analog Converter
footprint QFP48 (48-Pin Thin Quad Flat Pack 0.5 mm Pitch, IPC High Density)
pins: 1 D13_1, 2 D12_1, 3 D11_1, 4 D10_1, 5 D9_1, 6 D8_1, 7 D7_1, 8 D6_1, 9 D5_1, 10 D4_1, 11 D3_1, 12 D2_1, 13 D1_1, 14 D0_1, 15 DGND (power), 16 +VD (power), 17 WRT1 (in), 18 CLK1 (in), 19 CLK2 (in), 20 WRT2 (in), 21 DGND (power), 22 +VD (power), 23 D13_2 (in), 24 D12_2 (in), 25 D10_2 (in), 26 D10_2 (in), 27 D9_2 (in), 28 D8_2 (in), 29 D7_2 (in), 30 D6_2 (in), 31 D5_2 (in), 32 D4_2 (in), 33 D3_2 (in), 34 D2_2 (in), 35 D1_2 (in), 36 D0_2 (in), 37 PD (in), 38 AGND (power), 39 Iout2, 40 ~{Iout2}, 41 FSA2, 42 GSET, 43 REFin, 44 FSA1, 45 ~{Iout1}, 46 Iout1, 47 +VA (power), 48 NC

## DAC7625UB
designator U?, comment DAQ7625U
footprint SOL2801
pins: 1 VrefH, 2 VoutB (out), 3 VoutA (out), 4 Vss (power), 5 GND (power), 6 ~{RST} (in), 7 ~{LDAC} (in), 8 DB0 (in), 9 DB1 (in), 10 DB2 (in), 11 DB3 (in), 12 DB4 (in), 13 DB5 (in), 14 DB6 (in), 15 DB7 (in), 16 DB8 (in), 17 DB9 (in), 18 DB10 (in), 19 DB11 (in), 20 R/~{W} (in), 21 A1 (in), 22 A0 (in), 23 ~{CS} (in), 24 NC, 25 Vdd (power), 26 VoutD (out), 27 VoutC (out), 28 VrefL

## DIODE
designator D?
Diode; Right: 40; Bottom: 20
pins: 1 b, 2 C

## DIODE SCHOTTKY
designator D?
Diode Schottky; Right: 30; Bottom: 40
pins: 1 ANODE, 2 CATHODE

## DS1744WP-120IND
designator U?
NV Timekeeping RAM; Manufacturer: Dallas Semiconductor; Class I: Memory; Class II: Non-Volatile RAM; Revision: July-2002: Re-released for DXP Platform.; Package Reference: LPM34C
footprint LPM-34
pins: 1 NC, 2 NC, 3 NC, 4 ~{RST} (out), 5 VCC (power), 6 ~{WE} (in), 7 ~{OE} (in), 8 ~{CE} (in), 9 DQ7 (io), 10 DQ6 (io), 11 DQ5 (io), 12 DQ4 (io), 13 DQ3 (io), 14 DQ2 (io), 15 DQ1 (io), 16 DQ0 (io), 17 GND (power), 18 A0 (in), 19 A1 (in), 20 A2 (in), 21 A3 (in), 22 A4 (in), 23 A5 (in), 24 A6 (in), 25 A7 (in), 26 A8 (in), 27 A9 (in), 28 A10 (in), 29 A11 (in), 30 A12 (in), 31 A13 (in), 32 A14 (in), 33 NC, 34 NC

## DS2480B
designator U?
Serial 1-Wire Line  Driver with Load Sensor
footprint SO801
pins: 1 GND (power), 2 1-W (io), 3 NC, 4 VDD (power), 5 VPP (power), 6 POL (in), 7 TXD (in), 8 RXD (out)

## DS9503P
designator ESD?
DIODE ESD PROTECTION W/RES 6TSOC
footprint TSOC6
pins: 1, 2, 3, 4, 5, 6

## EM2S DCF
designator U?
Récepteur DCF-77
footprint EM2S DCF (Module DCF 77)
pins: 1 GND (power), 2 PON (in), 3 TIME (oc), 4 VCC (power), 5 ANT, 6 ANT

## Ferrite Bead
designator L?, comment BLM18HK102SN1  value 1k@100MHz
Ferrite Bead
footprint 060301
pins: 1, 2

## FSM1LP
designator SW?, comment FSM1LPA
Tactile Switches, 6 x 6mm, Low Profile, Surface Mount
footprint FSM1LP (Tactile Switches, 6 x 6mm, Low Profile, Surface Mount)
pins: 1, 2, 3, 4, 5 CASE

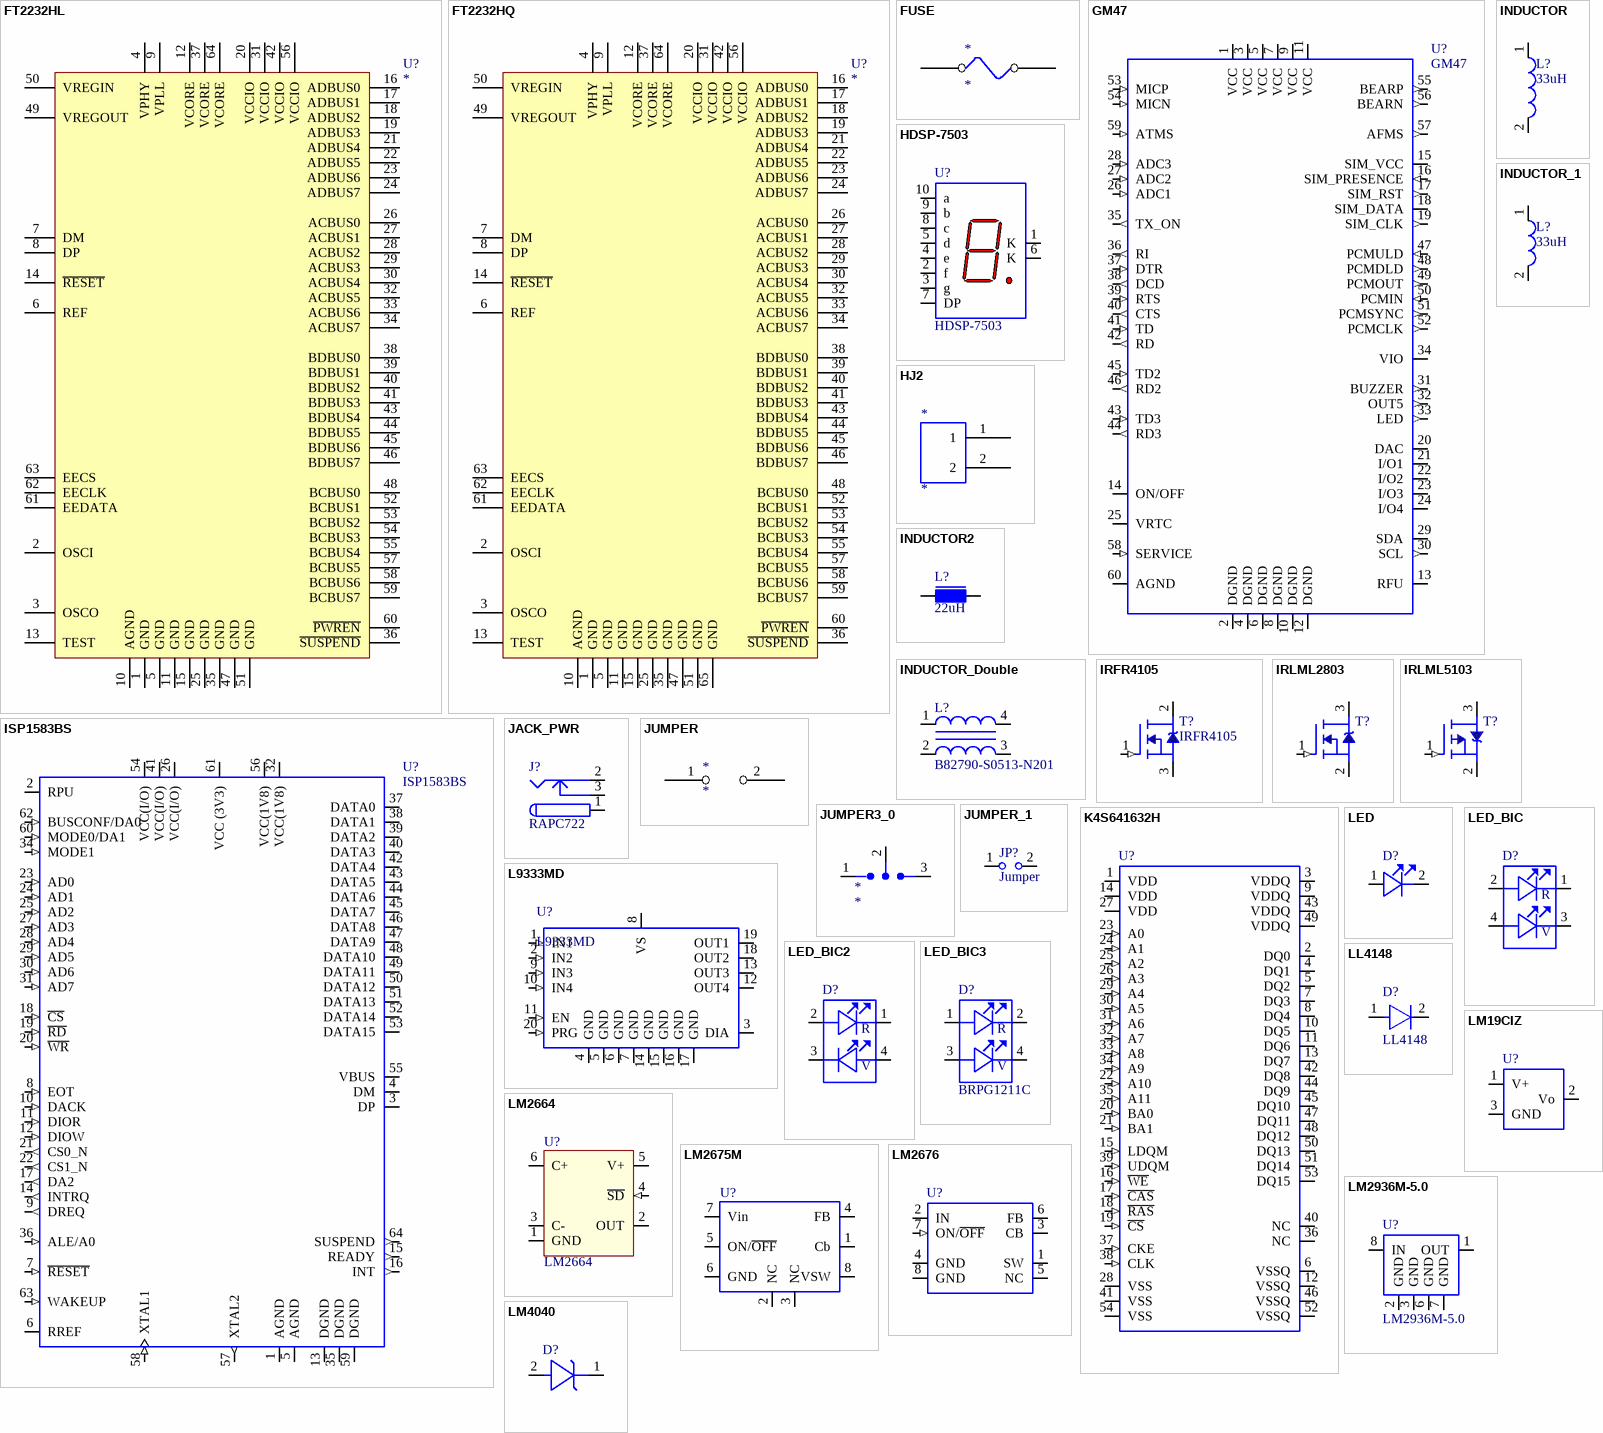
[diagram p4: symbols FT2232HL to LM4040]

## FT2232HL
designator U?
Dual High Speed USB to Multipurpose UART/FIFO
footprint LQFP-64
pins: 1 GND, 2 OSCI, 3 OSCO, 4 VPHY, 5 GND, 6 REF, 7 DM, 8 DP, 9 VPLL, 10 AGND, 11 GND, 12 VCORE, 13 TEST, 14 ~{RESET}, 15 GND, 16 ADBUS0, 17 ADBUS1, 18 ADBUS2, 19 ADBUS3, 20 VCCIO, 21 ADBUS4, 22 ADBUS5, 23 ADBUS6, 24 ADBUS7, 25 GND, 26 ACBUS0, 27 ACBUS1, 28 ACBUS2, 29 ACBUS3, 30 ACBUS4, 31 VCCIO, 32 ACBUS5, 33 ACBUS6, 34 ACBUS7, 35 GND, 36 ~{SUSPEND}, 37 VCORE, 38 BDBUS0, 39 BDBUS1, 40 BDBUS2, 41 BDBUS3, 42 VCCIO, 43 BDBUS4, 44 BDBUS5, 45 BDBUS6, 46 BDBUS7, 47 GND, 48 BCBUS0, 49 VREGOUT, 50 VREGIN, 51 GND, 52 BCBUS1, 53 BCBUS2, 54 BCBUS3, 55 BCBUS4, 56 VCCIO, 57 BCBUS5, 58 BCBUS6, 59 BCBUS7, 60 ~{PWREN}, 61 EEDATA, 62 EECLK, 63 EECS, 64 VCORE
2 alternate drawings of the same symbol

## FT2232HQ
designator U?
Dual High Speed USB to Multipurpose UART/FIFO
footprint QFN-64
pins: 1 GND, 2 OSCI, 3 OSCO, 4 VPHY, 5 GND, 6 REF, 7 DM, 8 DP, 9 VPLL, 10 AGND, 11 GND, 12 VCORE, 13 TEST, 14 ~{RESET}, 15 GND, 16 ADBUS0, 17 ADBUS1, 18 ADBUS2, 19 ADBUS3, 20 VCCIO, 21 ADBUS4, 22 ADBUS5, 23 ADBUS6, 24 ADBUS7, 25 GND, 26 ACBUS0, 27 ACBUS1, 28 ACBUS2, 29 ACBUS3, 30 ACBUS4, 31 VCCIO, 32 ACBUS5, 33 ACBUS6, 34 ACBUS7, 35 GND, 36 ~{SUSPEND}, 37 VCORE, 38 BDBUS0, 39 BDBUS1, 40 BDBUS2, 41 BDBUS3, 42 VCCIO, 43 BDBUS4, 44 BDBUS5, 45 BDBUS6, 46 BDBUS7, 47 GND, 48 BCBUS0, 49 VREGOUT, 50 VREGIN, 51 GND, 52 BCBUS1, 53 BCBUS2, 54 BCBUS3, 55 BCBUS4, 56 VCCIO, 57 BCBUS5, 58 BCBUS6, 59 BCBUS7, 60 ~{PWREN}, 61 EEDATA, 62 EECLK, 63 EECS, 64 VCORE, 65 GND
2 alternate drawings of the same symbol

## FUSE
designator *
Right: 30; Bottom: 20
pins: 1, 2

## GM47
designator U?
Sony Ericsson GSM Module
footprint ERICSSON_GM47_A
pins: 1 VCC (power), 2 DGND (power), 3 VCC (power), 4 DGND (power), 5 VCC (power), 6 DGND (power), 7 VCC (power), 8 DGND (power), 9 VCC (power), 10 DGND (power), 11 VCC (power), 12 DGND (power), 13 RFU, 14 ON/OFF (oc), 15 SIM_VCC (power), 16 SIM_PRESENCE (in), 17 SIM_RST (out), 18 SIM_DATA (io), 19 SIM_CLK (out), 20 DAC, 21 I/O1 (io), 22 I/O2 (io), 23 I/O3 (io), 24 I/O4 (io), 25 VRTC (power), 26 ADC1 (in), 27 ADC2 (in), 28 ADC3 (in), 29 SDA (io), 30 SCL (out), 31 BUZZER (out), 32 OUT5 (out), 33 LED (out), 34 VIO (power), 35 TX_ON (out), 36 RI (out), 37 DTR (in), 38 DCD (out), 39 RTS (in), 40 CTS (out), 41 TD (in), 42 RD (out), 43 TD3 (in), 44 RD3 (out), 45 TD2 (in), 46 RD2 (out), 47 PCMULD (in), 48 PCMDLD (out), 49 PCMOUT (out), 50 PCMIN (in), 51 PCMSYNC (out), 52 PCMCLK (out), 53 MICP (in), 54 MICN (in), 55 BEARP (out), 56 BEARN (out), 57 AFMS (out), 58 SERVICE (in), 59 ATMS (in), 60 AGND (power)

## HDSP-7503
designator U?
7.6 mm Micro Bright HER 7-Segment Display
footprint HDSP-7503 (LED, 7-Segment Display, 7.62 mm, RHD; 10 Leads; Row Space 5.08 mm; Pitch 2.54 mm)
pins: 1 K "Cathode", 2 f "Anode", 3 g "Anode", 4 e "Anode", 5 d "Anode", 6 K "Cathode", 7 DP "Anode", 8 c "Anode", 9 b "Anode", 10 a "Anode"

## HJ2
designator *
Right: 30; Bottom: 40
pins: 1, 2

## INDUCTOR
designator L?, comment 33uH
Inductance; Right: 20; Bottom: 40; Value: 33uH
pins: 1, 2

## INDUCTOR2
designator L?  value 22uH
Inductance; Class I: Passive; Class II: Inductor; Revision: July-2002: Re-released for DXP Platform.
pins: 1, 2

## INDUCTOR_1
designator L?, comment 33uH
Inductance; Value: 33uH
footprint 060301
pins: 1, 2

## INDUCTOR_Double
designator L?, comment B82790-S0513-N201
Inductance pour lignes de signaux
footprint L00101
pins: 1, 2, 3, 4

## IRFR4105
designator T?
MOSFET N
footprint DPAK01
pins: 1 GATE (in), 2 DRAIN, 3 SOURCE

## IRLML2803
designator T?
MOSFET N
footprint SOT2301
pins: 1 GATE (in), 2 SOURCE, 3 DRAIN

## IRLML5103
designator T?
MOSFET P
footprint SOT2301
pins: 1 GATE (in), 2 SOURCE, 3 DRAIN

## ISP1583BS
designator U?
Hi-Speed Universal Serial Bus peripheral controller
footprint SOT804-1 (HVQFN64: plastic thermal enhanced very thin quad flat package; no leads; 64 terminals;  body 9 x 9 x 0.85 mm)
pins: 1 AGND (power) "analog ground", 2 RPU "connect to the external pull-up resistor for pin DP; must be connected to 3.3 V via a 1.5 k resistor", 3 DP "USB D+ line connection (analog)", 4 DM "USB D - line connection (analog)", 5 AGND (power) "analog ground", 6 RREF (power) "connect to the external bias resistor; must be connected to ground via a 12.0 k ± 1% resistor", 7 ~{RESET} (in) "reset input (500 ms); a LOW level produces an asynchronous reset; connect to VCC for the power-on reset (internal POR circuit); TTL; 5 V tolerant", 8 EOT (in) "End-of-transfer input (programmable polarity); when not in use, connect this pin to VCC(I/O) through a 10 k resistor; input pad; TTL; 5 V tolerant", 9 DREQ (out) "DMA request (programmable polarity) output; when not in use, connect this pin to ground through a 10 k resistor", 10 DACK (in) "DMA acknowledge input (programmable polarity); when not in use, connect this pin to VCC(I/O) through a 10 k resistor TTL; 5 V tolerant", 11 DIOR (in) "DMA read strobe input (programmable polarity); when not in use, connect this pin to VCC(I/O) through a 10 k resistor; TTL; 5 V tolerant", 12 DIOW (in) "DMA write strobe input (programmable polarity); when not in use, connect this pin to VCC(I/O) through a 10 k resistor; TTL; 5 V tolerant", 13 DGND (power) "digital ground", 14 INTRQ (out) "interrupt output; programmable polarity (active HIGH or LOW) and signaling (edge or level triggered); CMOS output; 8 mA drive", 15 READY (out) "interrupt output; programmable polarity (active HIGH or LOW) and signaling (edge or level triggered); CMOS output; 8 mA drive", 16 INT (out) "interrupt output; programmable polarity (active HIGH or LOW) and signaling (edge or level triggered); CMOS output; 8 mA drive", 17 DA2 (out) "DMA request (programmable polarity) output; when not in use, connect this pin to ground through a 10 k resistor", 18 ~{CS} (in) "chip select input; input pad; TTL; 5 V tolerant", 19 ~{RD} (in) "read strobe input; input pad; TTL; 5 V tolerant", 20 ~{WR} (in) "write strobe input; input pad; TTL; 5 V tolerant", 21 CS0_N (out) "DMA request (programmable polarity) output; when not in use, connect this pin to ground through a 10 k resistor", 22 CS1_N (out) "DMA request (programmable polarity) output; when not in use, connect this pin to ground through a 10 k resistor", 23 AD0 (in) "bit 0 of the address bus; input pad; TTL; 5 V tolerant", 24 AD1 (in) "bit 1 of the address bus; input pad; TTL; 5 V tolerant", 25 AD2 (in) "bit 2 of the address bus; input pad; TTL; 5 V tolerant", 26 VCC(I/O) (power) "supply voltage; used to supply voltage to the I/O pads", 27 AD3 (in) "bit 3 of the address bus; input pad; TTL; 5 V tolerant", 28 AD4 (in) "bit 4 of the address bus; input pad; TTL; 5 V tolerant", 29 AD5 (in) "bit 5 of the address bus; input pad; TTL; 5 V tolerant", 30 AD6 (in) "bit 6 of the address bus; input pad; TTL; 5 V tolerant", 31 AD7 (in) "bit 7 of the address bus; input pad; TTL; 5 V tolerant", 32 VCC(1V8) (power) "regulator output voltage (1.8 V ± 0.15 V); decouple this pin using a 0.1 mF capacitor", 34 MODE1 (in) "interrupt output; programmable polarity (active HIGH or LOW) and signaling (edge or level triggered); CMOS output; 8 mA drive", 35 DGND (power) "digital ground", 36 ALE/A0 (in) "interrupt output; programmable polarity (active HIGH or LOW) and signaling (edge or level triggered); CMOS output; 8 mA drive", 37 DATA0 (io) "bit 0 of bidirectional data bus; bidirectional pad; 4 ns slew-rate control; TTL; 5 V tolerant", 38 DATA1 (io) "bit 1 of bidirectional data bus; bidirectional pad; 4 ns slew-rate control; TTL; 5 V tolerant", 39 DATA2 (io) "bit 2 of bidirectional data bus; bidirectional pad; 4 ns slew-rate control; TTL; 5 V tolerant", 40 DATA3 (io) "bit 3 of bidirectional data bus; bidirectional pad; 4 ns slew-rate control; TTL; 5 V tolerant", 41 VCC(I/O) (power) "supply voltage; used to supply voltage to the I/O pads", 42 DATA4 (io) "bit 4 of bidirectional data bus; bidirectional pad; 4 ns slew-rate control; TTL; 5 V tolerant", 43 DATA5 (io) "bit 5 of bidirectional data bus; bidirectional pad; 4 ns slew-rate control; TTL; 5 V tolerant", 44 DATA6 (io) "bit 6 of bidirectional data bus; bidirectional pad; 4 ns slew-rate control; TTL; 5 V tolerant", 45 DATA7 (io) "bit 7 of bidirectional data bus; bidirectional pad; 4 ns slew-rate control; TTL; 5 V tolerant", 46 DATA8 (io) "bit 8 of bidirectional data bus; bidirectional pad; 4 ns slew-rate control; TTL; 5 V tolerant", 47 DATA9 (io) "bit 9 of bidirectional data bus; bidirectional pad; 4 ns slew-rate control; TTL; 5 V tolerant", 48 DATA10 (io) "bit 10 of bidirectional data bus; bidirectional pad; 4 ns slew-rate control; TTL; 5 V tolerant", 49 DATA11 (io) "bit 11 of bidirectional data bus; bidirectional pad; 4 ns slew-rate control; TTL; 5 V tolerant", 50 DATA12 (io) "bit 12 of bidirectional data bus; bidirectional pad; 4 ns slew-rate control; TTL; 5 V tolerant", 51 DATA13 (io) "bit 13 of bidirectional data bus; bidirectional pad; 4 ns slew-rate control; TTL; 5 V tolerant", 52 DATA14 (io) "bit 14 of bidirectional data bus; bidirectional pad; 4 ns slew-rate control; TTL; 5 V tolerant", 53 DATA15 (io) "bit 15 of bidirectional data bus; bidirectional pad; 4 ns slew-rate control; TTL; 5 V tolerant", 54 VCC(I/O) (power) "supply voltage; used to supply voltage to the I/O pads", 55 VBUS (power) "USB bus power pin sensing input; connect a 1 mF electrolytic capacitor and a 1 M pull-down resistor to ground; 5 V tolerant", 56 VCC(1V8) (power) "regulator output voltage (1.8 V ± 0.15 V); decouple this pin using 4.7 mF and 0.1 mF capacitors", 57 XTAL2 (out) "crystal oscillator output (12 MHz); connect a fundamental parallel-resonant crystal; leave this pin open-circuit when using an external clock source on pin XTAL1", 58 XTAL1 (in) "crystal oscillator input (12 MHz); connect a fundamental parallel-resonant crystal or an external clock source (leaving pin XTAL2 unconnected)", 59 DGND (power) "digital ground", 60 MODE0/DA1 (in) "interrupt output; programmable polarity (active HIGH or LOW) and signaling (edge or level triggered); CMOS output; 8 mA drive", 61 VCC (3V3) (power) "supply voltage (3.3 V ± 0.3 V); this pin supplies the internal voltage regulator and the analog circuit", 62 BUSCONF/DA0 (in) "interrupt output; programmable polarity (active HIGH or LOW) and signaling (edge or level triggered); CMOS output; 8 mA drive", 63 WAKEUP (in) "wake-up input; when not in use, connect this pin to ground through a 10 k resistor; input pad; TTL; 5 V tolerant", 64 SUSPEND (out) "suspend state indicator output; CMOS output; 8 mA drive"

## JACK_PWR
designator J?, comment RAPC722
Power jack 2.1mm center pin
footprint RAPC722 (Power Jack Switchcraft)
signal-integrity model Connector
pins: 1 (power), 2 (power), 3 (power)

## JUMPER
designator *
Right: 20; Bottom: 20
pins: 1, 2

## JUMPER3_0
designator *
Right: 40; Bottom: 20
pins: 1, 2, 3

## JUMPER_1
designator JP?, comment Jumper
footprint J102A01
pins: 1, 2

## K4S641632H
designator U?
1M x 16bit x 4 banks SDRAM; Right: 120; Bottom: 300
footprint SO-G54/P.8
pins: 1 VDD (power), 2 DQ0 (io), 3 VDDQ (power), 4 DQ1 (io), 5 DQ2 (io), 6 VSSQ (power), 7 DQ3 (io), 8 DQ4 (io), 9 VDDQ (power), 10 DQ5 (io), 11 DQ6 (io), 12 VSSQ (power), 13 DQ7 (io), 14 VDD (power), 15 LDQM (in), 16 ~{WE} (in), 17 ~{CAS} (in), 18 ~{RAS} (in), 19 ~{CS} (in), 20 BA0 (in), 21 BA1 (in), 22 A10 (in), 23 A0 (in), 24 A1 (in), 25 A2 (in), 26 A3 (in), 27 VDD (power), 28 VSS (power), 29 A4 (in), 30 A5 (in), 31 A6 (in), 32 A7 (in), 33 A8 (in), 34 A9 (in), 35 A11 (in), 36 NC, 37 CKE (in), 38 CLK (in), 39 UDQM (in), 40 NC, 41 VSS (power), 42 DQ8 (io), 43 VDDQ (power), 44 DQ9 (io), 45 DQ10 (io), 46 VSSQ (power), 47 DQ11 (io), 48 DQ12 (io), 49 VDDQ (power), 50 DQ13 (io), 51 DQ14 (io), 52 VSSQ (power), 53 DQ15 (io), 54 VSS (power)

## L9333MD
designator U?
QUAD LOW SIDE DRIVER
footprint SO20_N (20-Pin Plastic Small Outline Integrated Circuit 1.27 mm Pitch, IPC Medium Density)
pins: 1 IN1 (in), 2 IN2 (in), 3 DIA (oc), 4 GND (power), 5 GND (power), 6 GND (power), 7 GND (power), 8 VS (power), 9 IN3 (in), 10 IN4 (in), 11 EN (in), 12 OUT4 (oc), 13 OUT3 (oc), 14 GND (power), 15 GND (power), 16 GND (power), 17 GND (power), 18 OUT2 (oc), 19 OUT1 (oc), 20 PRG (in)

## LED
designator D?
Led; Right: 40; Bottom: 20
footprint D00101
pins: 1 AN, 2 CAT

## LED_BIC
designator D?
Led bicolore; Right: 40; Bottom: 20
footprint D00101
pins: 1 CAT_R, 2 AN_R, 3 CAT_V, 4 AN_V
text: R; V

## LED_BIC2
designator D?
Led bicolore; Right: 40; Bottom: 20
footprint D00101
pins: 1 CAT_R, 2 AN_R, 3 CAT_V, 4 AN_V
text: R; V

## LED_BIC3
designator D?, comment BRPG1211C
LED RED/GREEN BI-COLOR SMD
footprint D00701 (LED RED/GREEN BI-COLOR SMD 1.5x1.6mm)
pins: 1 AN_R, 2 CAT_R, 3 AN_V, 4 CAT_V
text: R; V

## LL4148
designator D?
Diode
footprint SOD8001
pins: 1 b, 2 C

## LM19CIZ
designator U?
footprint T092
pins: 1 V+, 2 Vo, 3 GND

## LM2664
designator U?
Switched Capacitor Voltage Converter
footprint SOT23601
pins: 1 GND (power), 2 OUT (power), 3 C-, 4 ~{SD} (in), 5 V+ (power), 6 C+

## LM2675M
designator U?
Switching Voltage Regulator Step Down; Right: 100; Bottom: 60
footprint SO801
pins: 1 Cb, 2 NC (oc), 3 NC (oc), 4 FB, 5 ON/~{OFF}, 6 GND, 7 Vin, 8 VSW

## LM2676
designator U?
footprint D2PACK7 (D2-PAK; 7 Leads; Body 14.4 (inc. leads) x 10.4 mm (LxW max))
pins: 1 SW, 2 IN (power), 3 CB, 4 GND (power), 5 NC, 6 FB, 7 ON/~{OFF} (in), 8 GND (power)

## LM2936M-5.0
designator U?
Ultra-Low Quiescent Current 5V Regulator
footprint SO801
pins: 1 OUT (power), 2 GND (power), 3 GND (power), 4 NC hidden, 5 NC hidden, 6 GND (power), 7 GND (power), 8 IN (power)

## LM4040
designator D?
Référence de tension; Right: 30; Bottom: 40
footprint SOT2301
pins: 1 CATHODE, 2 ANODE, 3 NC hidden

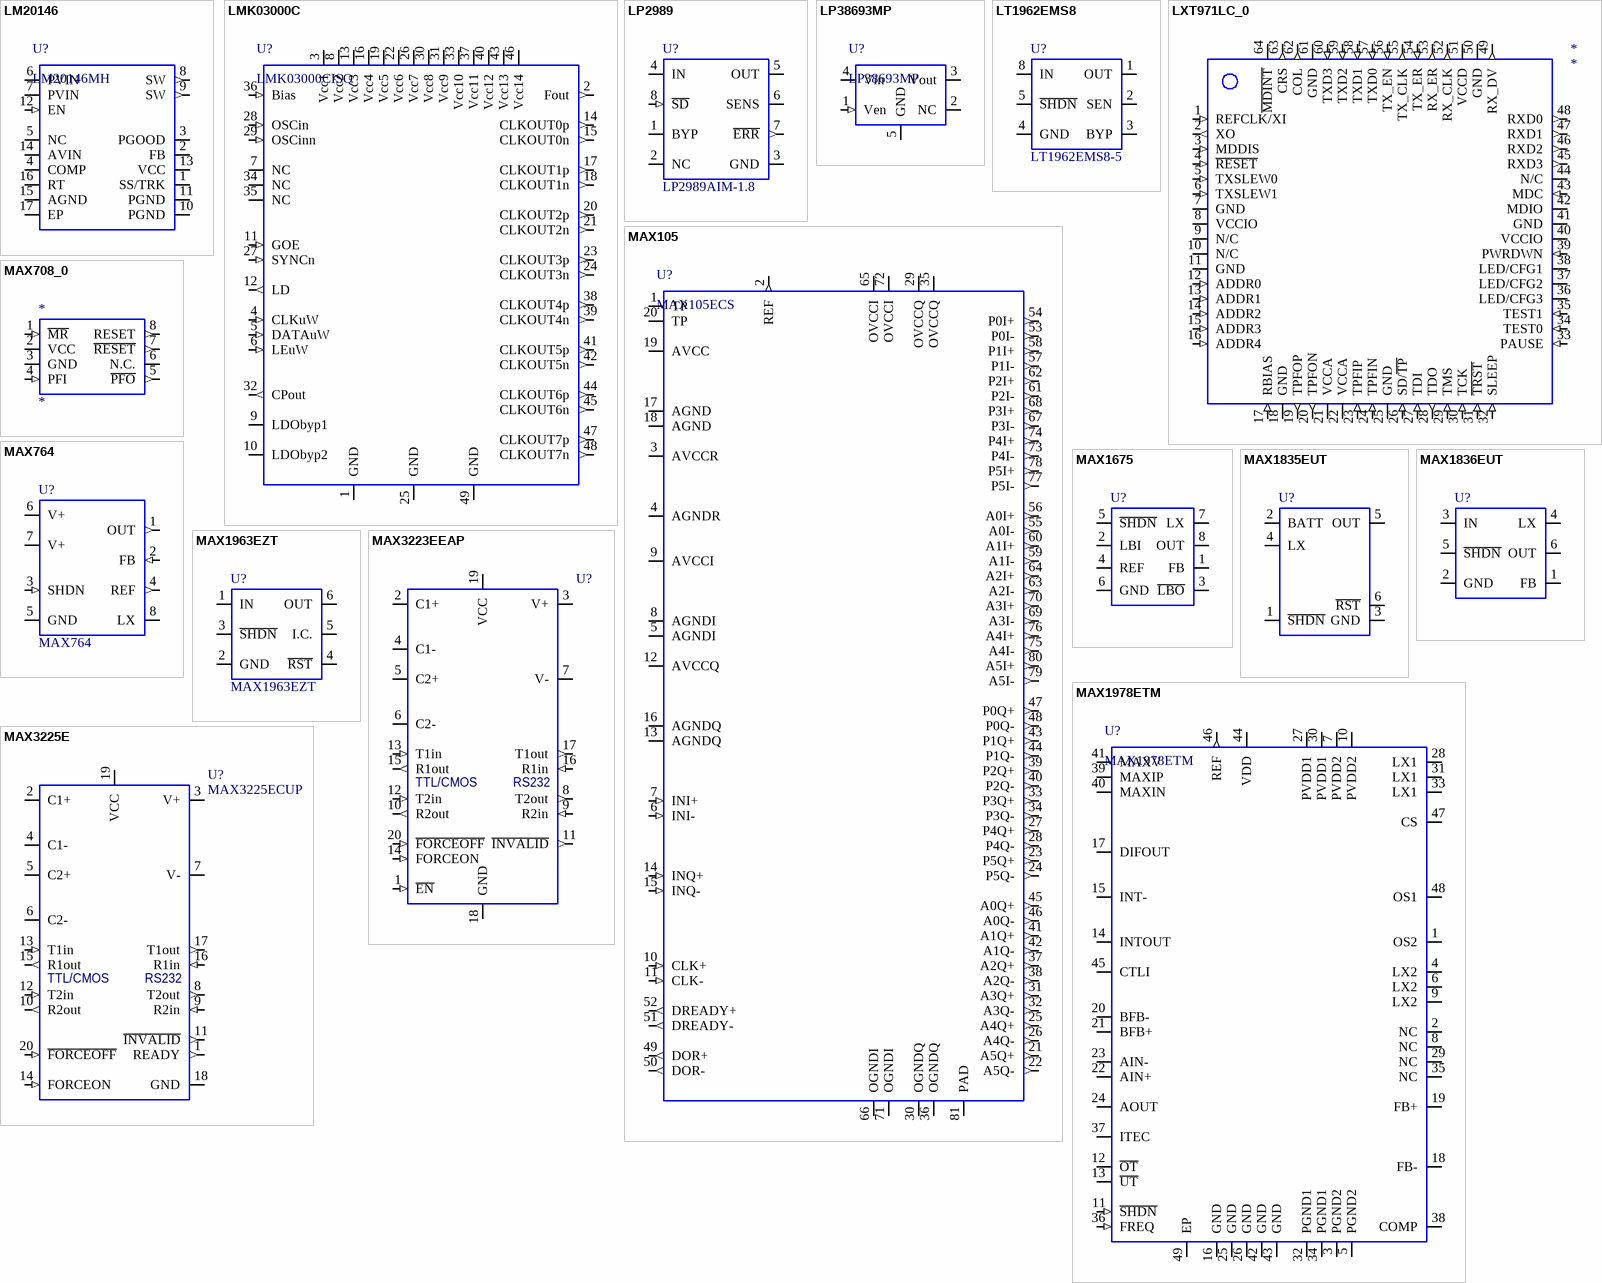
[diagram p5: symbols LM20146 to MAX3225E]

## LM20146
designator U?, comment LM20146MH
IC REG SYNC BUCK 6A ADJ 16TSSOP
footprint eTSSOP16 (TSOP, 16-Leads, Body 5x4.4mm, Pitch 0.65mm, Exposed Pad, IPC Medium Density)
pins: 1 SS/TRK, 2 FB, 3 PGOOD (oc), 4 COMP, 5 NC, 6 PVIN (power), 7 PVIN (power), 8 SW (out), 9 SW (out), 10 PGND (power), 11 PGND (power), 12 EN (in), 13 VCC, 14 AVIN, 15 AGND (power), 16 RT, 17 EP (power)

## LMK03000C
designator U?, comment LMK03000CISQ
Precision Clock Conditioner with Integrated VCO
footprint QFN48 (48-Pin Quad Flat No-Lead (QFG48))
pins: 1 GND (power), 2 Fout (out), 3 Vcc1 (power), 4 CLKuW (in), 5 DATAuW (in), 6 LEuW (in), 7 NC, 8 Vcc2 (power), 9 LDObyp1, 10 LDObyp2, 11 GOE (in), 12 LD (out), 13 Vcc3 (power), 14 CLKOUT0p (out), 15 CLKOUT0n (out), 16 Vcc4 (power), 17 CLKOUT1p (out), 18 CLKOUT1n (out), 19 Vcc5 (power), 20 CLKOUT2p (out), 21 CLKOUT2n (out), 22 Vcc6 (power), 23 CLKOUT3p (out), 24 CLKOUT3n (out), 25 GND (power), 26 Vcc7 (power), 27 SYNCn (in), 28 OSCin (in), 29 OSCinn (in), 30 Vcc8 (power), 31 Vcc9 (power), 32 CPout (out), 33 Vcc10 (power), 34 NC, 35 NC, 36 Bias (in), 37 Vcc11 (power), 38 CLKOUT4p (out), 39 CLKOUT4n (out), 40 Vcc12 (power), 41 CLKOUT5p (out), 42 CLKOUT5n (out), 43 Vcc13 (power), 44 CLKOUT6p (out), 45 CLKOUT6n (out), 46 Vcc14 (power), 47 CLKOUT7p (out), 48 CLKOUT7n (out), 49 GND (power)

## LP2989
designator U?, comment LP2989AIM-1.8
Linear voltage regulator
footprint SO801
pins: 1 BYP, 2 NC, 3 GND (power), 4 IN (power), 5 OUT (power), 6 SENS, 7 ~{ERR} (out), 8 ~{SD} (in)

## LP38693MP
designator U?
500mA Low Dropout CMOS Linear Regulators
footprint SOT223-5 (SOT223, 5-Leads, Body 6.5x3.5mm, Pitch 1.5mm, Lead Span 7mm, IPC Medium Density)
pins: 1 Ven (in), 2 NC, 3 Vout (power), 4 Vin (power), 5 GND (power)

## LT1962EMS8
designator U?, comment LT1962EMS8-5
Regulateur lineaire
footprint SSOP8 (Shrink Small Outline; 8 Leads; Body Width 3 mm; Pitch 0.65 mm)
pins: 1 OUT, 2 SEN, 3 BYP, 4 GND, 5 ~{SHDN}, 8 IN

## LXT971LC_0
designator *
Right: 230; Bottom: 230
pins: 1 REFCLK/XI (in), 2 XO (out), 3 MDDIS (in), 4 ~{RESET} (in), 5 TXSLEW0 (in), 6 TXSLEW1 (in), 7 GND, 8 VCCIO, 9 N/C, 10 N/C, 11 GND, 12 ADDR0 (in), 13 ADDR1 (in), 14 ADDR2 (in), 15 ADDR3 (in), 16 ADDR4 (in), 17 RBIAS (in), 18 GND, 19 TPFOP (out), 20 TPFON (out), 21 VCCA, 22 VCCA, 23 TPFIP (in), 24 TPFIN (in), 25 GND, 26 SD/~{TP} (in), 27 TDI (in), 28 TDO (out), 29 TMS (in), 30 TCK (in), 31 ~{TRST} (in), 32 SLEEP (in), 33 PAUSE (in), 34 TEST0 (in), 35 TEST1 (in), 36 LED/CFG3 (io), 37 LED/CFG2 (io), 38 LED/CFG1 (io), 39 PWRDWN (in), 40 VCCIO, 41 GND, 42 MDIO (io), 43 MDC (in), 44 N/C, 45 RXD3 (out), 46 RXD2 (out), 47 RXD1 (out), 48 RXD0 (out), 49 RX_DV (out), 50 GND, 51 VCCD, 52 RX_CLK (out), 53 RX_ER (out), 54 TX_ER (in), 55 TX_CLK (out), 56 TX_EN (in), 57 TXD0 (in), 58 TXD1 (in), 59 TXD2 (in), 60 TXD3 (in), 61 GND, 62 COL (out), 63 CRS (out), 64 ~{MDINT} (oc)

## MAX105
designator U?, comment MAX105ECS
Dual, 6-Bit, 800Msps ADC
footprint TSQFP50P1400X1400_HS-80M (80-Pin Plastic Quad Flat Pack PowerPAD)
pins: 1 TP, 2 REF (out), 3 AVCCR (power), 4 AGNDR (power), 5 AGNDI (power), 6 INI- (in), 7 INI+ (in), 8 AGNDI (power), 9 AVCCI (power), 10 CLK+ (in), 11 CLK- (in), 12 AVCCQ (power), 13 AGNDQ (power), 14 INQ+ (in), 15 INQ- (in), 16 AGNDQ (power), 17 AGND (power), 18 AGND (power), 19 AVCC (power), 20 TP, 21 A5Q+ (out), 22 A5Q- (out), 23 P5Q+ (out), 24 P5Q- (out), 25 A4Q+ (out), 26 A4Q- (out), 27 P4Q+ (out), 28 P4Q- (out), 29 OVCCQ (power), 30 OGNDQ (power), 31 A3Q+ (out), 32 A3Q- (out), 33 P3Q+ (out), 34 P3Q- (out), 35 OVCCQ (power), 36 OGNDQ (power), 37 A2Q+ (out), 38 A2Q- (out), 39 P2Q+ (out), 40 P2Q- (out), 41 A1Q+ (out), 42 A1Q- (out), 43 P1Q+ (out), 44 P1Q- (out), 45 A0Q+ (out), 46 A0Q- (out), 47 P0Q+ (out), 48 P0Q- (out), 49 DOR+ (out), 50 DOR- (out), 51 DREADY- (out), 52 DREADY+ (out), 53 P0I- (out), 54 P0I+ (out), 55 A0I- (out), 56 A0I+ (out), 57 P1I- (out), 58 P1I+ (out), 59 A1I- (out), 60 A1I+ (out), 61 P2I- (out), 62 P2I+ (out), 63 A2I- (out), 64 A2I+ (out), 65 OVCCI (power), 66 OGNDI (power), 67 P3I- (out), 68 P3I+ (out), 69 A3I- (out), 70 A3I+ (out), 71 OGNDI (power), 72 OVCCI (power), 73 P4I- (out), 74 P4I+ (out), 75 A4I- (out), 76 A4I+ (out), 77 P5I- (out), 78 P5I+ (out), 79 A5I- (out), 80 A5I+ (out), 81 PAD (power)

## MAX708_0
designator *
Right: 70; Bottom: 50
pins: 1 ~{MR} (in), 2 VCC, 3 GND, 4 PFI (in), 5 ~{PFO} (out), 6 N.C., 7 ~{RESET} (out), 8 RESET (out)

## MAX764
designator U?
-5V or Adjustable, High-Efficiency, Low IQ DC-DC Inverter
footprint SO801
footprint NSO8_M (SOIC, 8-Leads, Body 4.9x3.9mm, Pitch 1.27mm, IPC Low Density)
3D model NSO8 (8-Pin Small Outline Integrated Circuit 1.27 mm Pitch)
pins: 1 OUT (out), 2 FB (in), 3 SHDN (in), 4 REF (out), 5 GND (power), 6 V+ (power), 7 V+ (power), 8 LX (oe)

## MAX1675
designator U?
Step-Up DC/DC
footprint SSOP8
pins: 1 FB, 2 LBI, 3 ~{LBO}, 4 REF, 5 ~{SHDN}, 6 GND, 7 LX, 8 OUT

## MAX1835EUT
designator U?
Step-Up DC/DC
pins: 1 ~{SHDN}, 2 BATT, 3 GND, 4 LX, 5 OUT, 6 ~{RST}

## MAX1836EUT
designator U?
Step-Down DC/DC
pins: 1 FB, 2 GND, 3 IN, 4 LX, 5 ~{SHDN}, 6 OUT